# Altium schematic symbol library MCU_Texas_MSP430.SchLib: 361 symbols (part 5 of 9)
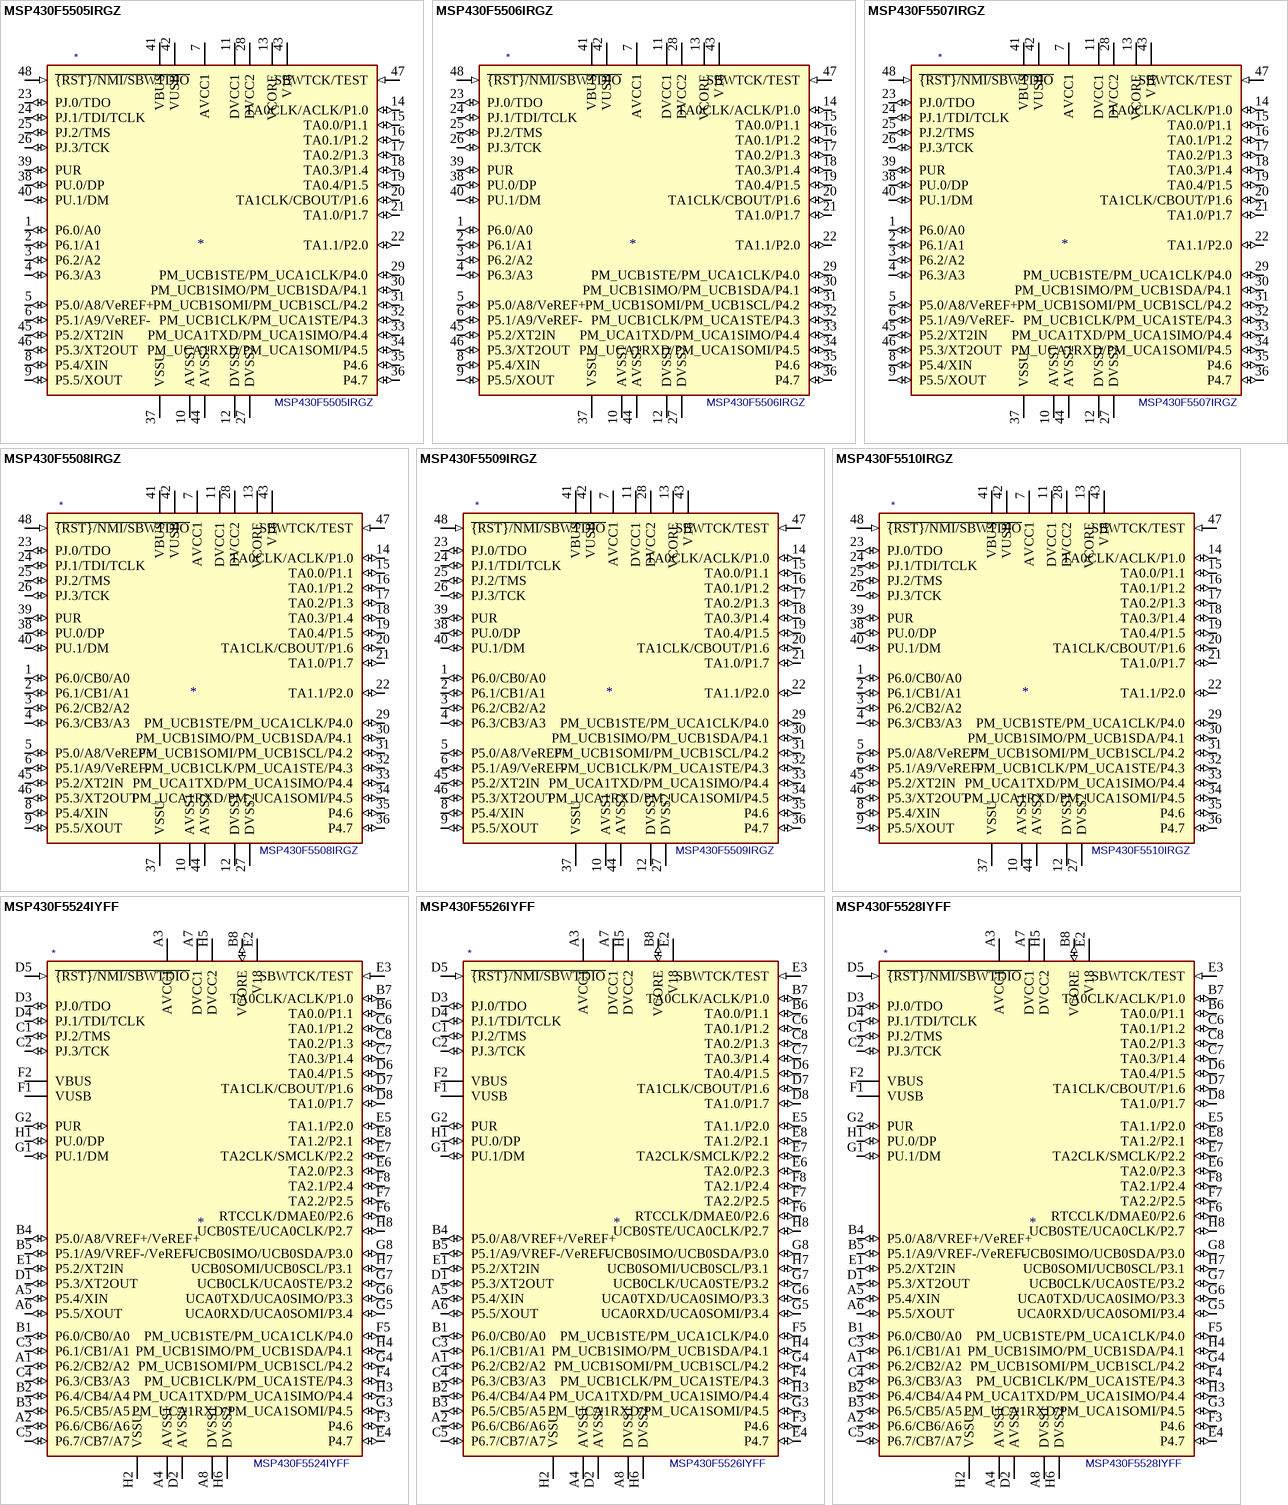
[diagram p38: symbols MSP430F5505IRGZ to MSP430F5528IYFF]

## MSP430F5508IRGZ
designator *  value MSP430F5508IRGZ
ki_keywords: TI MSP430 16-bit mixed signal microcontroller; ki_description: 16kB Flash, 4kB + 2kB RAM, QFN-48; ki_fp_filters: Texas*S?PVQFN*; Footprint: Package_DFN_QFN:Texas_S-PVQFN-N48_EP5.15x5.15mm; Supplier: http://www.ti.com/lit/ds/symlink/msp430f5508.pdf
footprint Texas_S-PVQFN-N48_EP5.15x5.15mm
pins: 1 P6.0/CB0/A0 (io), 2 P6.1/CB1/A1 (io), 3 P6.2/CB2/A2 (io), 4 P6.3/CB3/A3 (io), 5 P5.0/A8/VeREF+ (io), 6 P5.1/A9/VeREF- (io), 7 AVCC1 (power), 8 P5.4/XIN (io), 9 P5.5/XOUT (io), 10 AVSS1 (power), 11 DVCC1 (power), 12 DVSS1 (power), 13 VCORE, 14 TA0CLK/ACLK/P1.0 (io), 15 TA0.0/P1.1 (io), 16 TA0.1/P1.2 (io), 17 TA0.2/P1.3 (io), 18 TA0.3/P1.4 (io), 19 TA0.4/P1.5 (io), 20 TA1CLK/CBOUT/P1.6 (io), 21 TA1.0/P1.7 (io), 22 TA1.1/P2.0 (io), 23 PJ.0/TDO (io), 24 PJ.1/TDI/TCLK (io), 25 PJ.2/TMS (io), 26 PJ.3/TCK (io), 27 DVSS2 (power), 28 DVCC2 (power), 29 PM_UCB1STE/PM_UCA1CLK/P4.0 (io), 30 PM_UCB1SIMO/PM_UCB1SDA/P4.1 (io), 31 PM_UCB1SOMI/PM_UCB1SCL/P4.2 (io), 32 PM_UCB1CLK/PM_UCA1STE/P4.3 (io), 33 PM_UCA1TXD/PM_UCA1SIMO/P4.4 (io), 34 PM_UCA1RXD/PM_UCA1SOMI/P4.5 (io), 35 P4.6 (io), 36 P4.7 (io), 37 VSSU (power), 38 PU.0/DP (io), 39 PUR (io), 40 PU.1/DM (io), 41 VBUS (power), 42 VUSB (power), 43 V18, 44 AVSS2 (power), 45 P5.2/XT2IN (io), 46 P5.3/XT2OUT (io), 47 SBWTCK/TEST (in), 48 ~{{RST}/NMI/SBWTDIO} (in)

## MSP430F5509IRGZ
designator *  value MSP430F5509IRGZ
ki_keywords: TI MSP430 16-bit mixed signal microcontroller; ki_description: 24kB Flash, 4kB + 2kB RAM, QFN-48; ki_fp_filters: Texas*S?PVQFN*; Footprint: Package_DFN_QFN:Texas_S-PVQFN-N48_EP5.15x5.15mm; Supplier: http://www.ti.com/lit/ds/symlink/msp430f5509.pdf
footprint Texas_S-PVQFN-N48_EP5.15x5.15mm
pins: 1 P6.0/CB0/A0 (io), 2 P6.1/CB1/A1 (io), 3 P6.2/CB2/A2 (io), 4 P6.3/CB3/A3 (io), 5 P5.0/A8/VeREF+ (io), 6 P5.1/A9/VeREF- (io), 7 AVCC1 (power), 8 P5.4/XIN (io), 9 P5.5/XOUT (io), 10 AVSS1 (power), 11 DVCC1 (power), 12 DVSS1 (power), 13 VCORE, 14 TA0CLK/ACLK/P1.0 (io), 15 TA0.0/P1.1 (io), 16 TA0.1/P1.2 (io), 17 TA0.2/P1.3 (io), 18 TA0.3/P1.4 (io), 19 TA0.4/P1.5 (io), 20 TA1CLK/CBOUT/P1.6 (io), 21 TA1.0/P1.7 (io), 22 TA1.1/P2.0 (io), 23 PJ.0/TDO (io), 24 PJ.1/TDI/TCLK (io), 25 PJ.2/TMS (io), 26 PJ.3/TCK (io), 27 DVSS2 (power), 28 DVCC2 (power), 29 PM_UCB1STE/PM_UCA1CLK/P4.0 (io), 30 PM_UCB1SIMO/PM_UCB1SDA/P4.1 (io), 31 PM_UCB1SOMI/PM_UCB1SCL/P4.2 (io), 32 PM_UCB1CLK/PM_UCA1STE/P4.3 (io), 33 PM_UCA1TXD/PM_UCA1SIMO/P4.4 (io), 34 PM_UCA1RXD/PM_UCA1SOMI/P4.5 (io), 35 P4.6 (io), 36 P4.7 (io), 37 VSSU (power), 38 PU.0/DP (io), 39 PUR (io), 40 PU.1/DM (io), 41 VBUS (power), 42 VUSB (power), 43 V18, 44 AVSS2 (power), 45 P5.2/XT2IN (io), 46 P5.3/XT2OUT (io), 47 SBWTCK/TEST (in), 48 ~{{RST}/NMI/SBWTDIO} (in)

## MSP430F5510IRGZ
designator *  value MSP430F5510IRGZ
ki_keywords: TI MSP430 16-bit mixed signal microcontroller; ki_description: 32kB Flash, 4kB + 2kB RAM, QFN-48; ki_fp_filters: Texas*S?PVQFN*; Footprint: Package_DFN_QFN:Texas_S-PVQFN-N48_EP5.15x5.15mm; Supplier: http://www.ti.com/lit/ds/symlink/msp430f5510.pdf
footprint Texas_S-PVQFN-N48_EP5.15x5.15mm
pins: 1 P6.0/CB0/A0 (io), 2 P6.1/CB1/A1 (io), 3 P6.2/CB2/A2 (io), 4 P6.3/CB3/A3 (io), 5 P5.0/A8/VeREF+ (io), 6 P5.1/A9/VeREF- (io), 7 AVCC1 (power), 8 P5.4/XIN (io), 9 P5.5/XOUT (io), 10 AVSS1 (power), 11 DVCC1 (power), 12 DVSS1 (power), 13 VCORE, 14 TA0CLK/ACLK/P1.0 (io), 15 TA0.0/P1.1 (io), 16 TA0.1/P1.2 (io), 17 TA0.2/P1.3 (io), 18 TA0.3/P1.4 (io), 19 TA0.4/P1.5 (io), 20 TA1CLK/CBOUT/P1.6 (io), 21 TA1.0/P1.7 (io), 22 TA1.1/P2.0 (io), 23 PJ.0/TDO (io), 24 PJ.1/TDI/TCLK (io), 25 PJ.2/TMS (io), 26 PJ.3/TCK (io), 27 DVSS2 (power), 28 DVCC2 (power), 29 PM_UCB1STE/PM_UCA1CLK/P4.0 (io), 30 PM_UCB1SIMO/PM_UCB1SDA/P4.1 (io), 31 PM_UCB1SOMI/PM_UCB1SCL/P4.2 (io), 32 PM_UCB1CLK/PM_UCA1STE/P4.3 (io), 33 PM_UCA1TXD/PM_UCA1SIMO/P4.4 (io), 34 PM_UCA1RXD/PM_UCA1SOMI/P4.5 (io), 35 P4.6 (io), 36 P4.7 (io), 37 VSSU (power), 38 PU.0/DP (io), 39 PUR (io), 40 PU.1/DM (io), 41 VBUS (power), 42 VUSB (power), 43 V18, 44 AVSS2 (power), 45 P5.2/XT2IN (io), 46 P5.3/XT2OUT (io), 47 SBWTCK/TEST (in), 48 ~{{RST}/NMI/SBWTDIO} (in)

## MSP430F5524IYFF
designator *  value MSP430F5524IYFF
ki_keywords: TI MSP430 16-bit mixed signal microcontroller; ki_description: 64kB Flash, 4kB + 2kB RAM, BGA-64; ki_fp_filters: Texas*DSBGA*3.415x3.535mm*Layout8x8*P0.4mm*; Footprint: Package_BGA:Texas_DSBGA-64_3.415x3.535mm_Layout8x8_P0.4mm; Supplier: http://www.ti.com/lit/ds/symlink/msp430f5524.pdf
footprint Texas_DSBGA-64_3.415x3.535mm_Layout8x8_P0.4mm
pins: A1 P6.2/CB2/A2 (io), A2 P6.6/CB6/A6 (io), A3 AVCC1 (power), A4 AVSS1 (power), A5 P5.4/XIN (io), A6 P5.5/XOUT (io), A7 DVCC1 (power), A8 DVSS1 (power), B1 P6.0/CB0/A0 (io), B2 P6.4/CB4/A4 (io), B3 P6.5/CB5/A5 (io), B4 P5.0/A8/VREF+/VeREF+ (io), B5 P5.1/A9/VREF-/VeREF- (io), B6 TA0.0/P1.1 (io), B7 TA0CLK/ACLK/P1.0 (io), B8 VCORE (io), C1 PJ.2/TMS (io), C2 PJ.3/TCK (io), C3 P6.1/CB1/A1 (io), C4 P6.3/CB3/A3 (io), C5 P6.7/CB7/A7 (io), C6 TA0.1/P1.2 (io), C7 TA0.3/P1.4 (io), C8 TA0.2/P1.3 (io), D1 P5.3/XT2OUT (io), D2 AVSS2 (power), D3 PJ.0/TDO (io), D4 PJ.1/TDI/TCLK (io), D5 ~{{RST}/NMI/SBWTDIO} (in), D6 TA0.4/P1.5 (io), D7 TA1CLK/CBOUT/P1.6 (io), D8 TA1.0/P1.7 (io), E1 P5.2/XT2IN (io), E2 V18, E3 SBWTCK/TEST (in), E4 P4.7 (io), E5 TA1.1/P2.0 (io), E6 TA2.0/P2.3 (io), E7 TA2CLK/SMCLK/P2.2 (io), E8 TA1.2/P2.1 (io), F1 VUSB (power), F2 VBUS (power), F3 P4.6 (io), F4 PM_UCB1CLK/PM_UCA1STE/P4.3 (io), F5 PM_UCB1STE/PM_UCA1CLK/P4.0 (io), F6 RTCCLK/DMAE0/P2.6 (io), F7 TA2.2/P2.5 (io), F8 TA2.1/P2.4 (io), G1 PU.1/DM (io), G2 PUR (io), G3 PM_UCA1RXD/PM_UCA1SOMI/P4.5 (io), G4 PM_UCB1SOMI/PM_UCB1SCL/P4.2 (io), G5 UCA0RXD/UCA0SOMI/P3.4 (io), G6 UCA0TXD/UCA0SIMO/P3.3 (io), G7 UCB0CLK/UCA0STE/P3.2 (io), G8 UCB0SIMO/UCB0SDA/P3.0 (io), H1 PU.0/DP (io), H2 VSSU (power), H3 PM_UCA1TXD/PM_UCA1SIMO/P4.4 (io), H4 PM_UCB1SIMO/PM_UCB1SDA/P4.1 (io), H5 DVCC2 (power), H6 DVSS2 (power), H7 UCB0SOMI/UCB0SCL/P3.1 (io), H8 UCB0STE/UCA0CLK/P2.7 (io)

## MSP430F5526IYFF
designator *  value MSP430F5526IYFF
ki_keywords: TI MSP430 16-bit mixed signal microcontroller; ki_description: 96kB Flash, 6kB + 2kB RAM, BGA-64; ki_fp_filters: Texas*DSBGA*3.415x3.535mm*Layout8x8*P0.4mm*; Footprint: Package_BGA:Texas_DSBGA-64_3.415x3.535mm_Layout8x8_P0.4mm; Supplier: http://www.ti.com/lit/ds/symlink/msp430f5526.pdf
footprint Texas_DSBGA-64_3.415x3.535mm_Layout8x8_P0.4mm
pins: A1 P6.2/CB2/A2 (io), A2 P6.6/CB6/A6 (io), A3 AVCC1 (power), A4 AVSS1 (power), A5 P5.4/XIN (io), A6 P5.5/XOUT (io), A7 DVCC1 (power), A8 DVSS1 (power), B1 P6.0/CB0/A0 (io), B2 P6.4/CB4/A4 (io), B3 P6.5/CB5/A5 (io), B4 P5.0/A8/VREF+/VeREF+ (io), B5 P5.1/A9/VREF-/VeREF- (io), B6 TA0.0/P1.1 (io), B7 TA0CLK/ACLK/P1.0 (io), B8 VCORE (io), C1 PJ.2/TMS (io), C2 PJ.3/TCK (io), C3 P6.1/CB1/A1 (io), C4 P6.3/CB3/A3 (io), C5 P6.7/CB7/A7 (io), C6 TA0.1/P1.2 (io), C7 TA0.3/P1.4 (io), C8 TA0.2/P1.3 (io), D1 P5.3/XT2OUT (io), D2 AVSS2 (power), D3 PJ.0/TDO (io), D4 PJ.1/TDI/TCLK (io), D5 ~{{RST}/NMI/SBWTDIO} (in), D6 TA0.4/P1.5 (io), D7 TA1CLK/CBOUT/P1.6 (io), D8 TA1.0/P1.7 (io), E1 P5.2/XT2IN (io), E2 V18, E3 SBWTCK/TEST (in), E4 P4.7 (io), E5 TA1.1/P2.0 (io), E6 TA2.0/P2.3 (io), E7 TA2CLK/SMCLK/P2.2 (io), E8 TA1.2/P2.1 (io), F1 VUSB (power), F2 VBUS (power), F3 P4.6 (io), F4 PM_UCB1CLK/PM_UCA1STE/P4.3 (io), F5 PM_UCB1STE/PM_UCA1CLK/P4.0 (io), F6 RTCCLK/DMAE0/P2.6 (io), F7 TA2.2/P2.5 (io), F8 TA2.1/P2.4 (io), G1 PU.1/DM (io), G2 PUR (io), G3 PM_UCA1RXD/PM_UCA1SOMI/P4.5 (io), G4 PM_UCB1SOMI/PM_UCB1SCL/P4.2 (io), G5 UCA0RXD/UCA0SOMI/P3.4 (io), G6 UCA0TXD/UCA0SIMO/P3.3 (io), G7 UCB0CLK/UCA0STE/P3.2 (io), G8 UCB0SIMO/UCB0SDA/P3.0 (io), H1 PU.0/DP (io), H2 VSSU (power), H3 PM_UCA1TXD/PM_UCA1SIMO/P4.4 (io), H4 PM_UCB1SIMO/PM_UCB1SDA/P4.1 (io), H5 DVCC2 (power), H6 DVSS2 (power), H7 UCB0SOMI/UCB0SCL/P3.1 (io), H8 UCB0STE/UCA0CLK/P2.7 (io)

## MSP430F5528IYFF
designator *  value MSP430F5528IYFF
ki_keywords: TI MSP430 16-bit mixed signal microcontroller; ki_description: 128kB Flash, 8kB + 2kB RAM, BGA-64; ki_fp_filters: Texas*DSBGA*3.415x3.535mm*Layout8x8*P0.4mm*; Footprint: Package_BGA:Texas_DSBGA-64_3.415x3.535mm_Layout8x8_P0.4mm; Supplier: http://www.ti.com/lit/ds/symlink/msp430f5528.pdf
footprint Texas_DSBGA-64_3.415x3.535mm_Layout8x8_P0.4mm
pins: A1 P6.2/CB2/A2 (io), A2 P6.6/CB6/A6 (io), A3 AVCC1 (power), A4 AVSS1 (power), A5 P5.4/XIN (io), A6 P5.5/XOUT (io), A7 DVCC1 (power), A8 DVSS1 (power), B1 P6.0/CB0/A0 (io), B2 P6.4/CB4/A4 (io), B3 P6.5/CB5/A5 (io), B4 P5.0/A8/VREF+/VeREF+ (io), B5 P5.1/A9/VREF-/VeREF- (io), B6 TA0.0/P1.1 (io), B7 TA0CLK/ACLK/P1.0 (io), B8 VCORE (io), C1 PJ.2/TMS (io), C2 PJ.3/TCK (io), C3 P6.1/CB1/A1 (io), C4 P6.3/CB3/A3 (io), C5 P6.7/CB7/A7 (io), C6 TA0.1/P1.2 (io), C7 TA0.3/P1.4 (io), C8 TA0.2/P1.3 (io), D1 P5.3/XT2OUT (io), D2 AVSS2 (power), D3 PJ.0/TDO (io), D4 PJ.1/TDI/TCLK (io), D5 ~{{RST}/NMI/SBWTDIO} (in), D6 TA0.4/P1.5 (io), D7 TA1CLK/CBOUT/P1.6 (io), D8 TA1.0/P1.7 (io), E1 P5.2/XT2IN (io), E2 V18, E3 SBWTCK/TEST (in), E4 P4.7 (io), E5 TA1.1/P2.0 (io), E6 TA2.0/P2.3 (io), E7 TA2CLK/SMCLK/P2.2 (io), E8 TA1.2/P2.1 (io), F1 VUSB (power), F2 VBUS (power), F3 P4.6 (io), F4 PM_UCB1CLK/PM_UCA1STE/P4.3 (io), F5 PM_UCB1STE/PM_UCA1CLK/P4.0 (io), F6 RTCCLK/DMAE0/P2.6 (io), F7 TA2.2/P2.5 (io), F8 TA2.1/P2.4 (io), G1 PU.1/DM (io), G2 PUR (io), G3 PM_UCA1RXD/PM_UCA1SOMI/P4.5 (io), G4 PM_UCB1SOMI/PM_UCB1SCL/P4.2 (io), G5 UCA0RXD/UCA0SOMI/P3.4 (io), G6 UCA0TXD/UCA0SIMO/P3.3 (io), G7 UCB0CLK/UCA0STE/P3.2 (io), G8 UCB0SIMO/UCB0SDA/P3.0 (io), H1 PU.0/DP (io), H2 VSSU (power), H3 PM_UCA1TXD/PM_UCA1SIMO/P4.4 (io), H4 PM_UCB1SIMO/PM_UCB1SDA/P4.1 (io), H5 DVCC2 (power), H6 DVSS2 (power), H7 UCB0SOMI/UCB0SCL/P3.1 (io), H8 UCB0STE/UCA0CLK/P2.7 (io)

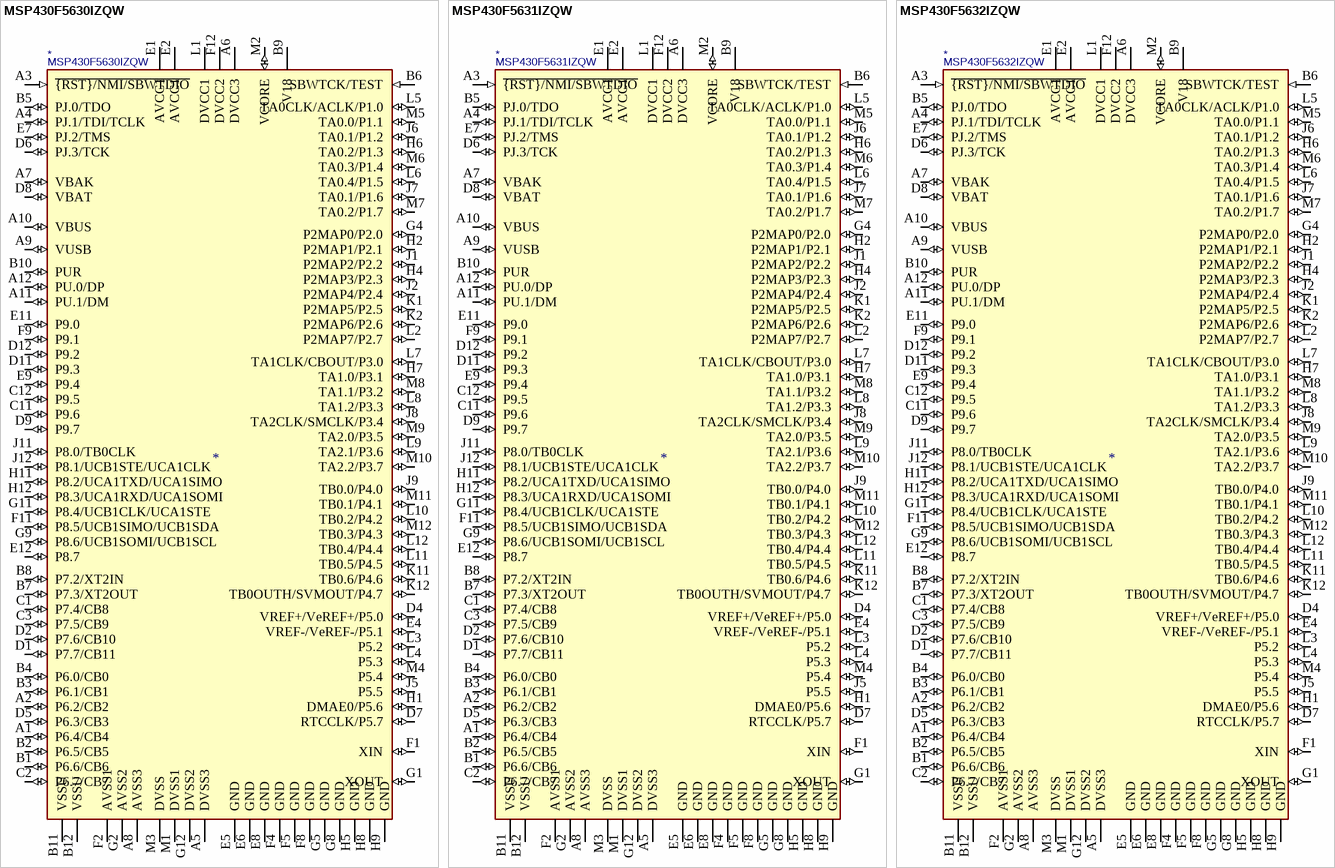
[diagram p17: symbols MSP430F5630IZQW to MSP430F5632IZQW]

## MSP430F5630IZQW
designator *  value MSP430F5630IZQW
ki_keywords: TI MSP430 16-bit mixed signal microcontroller; ki_description: 128kB Flash, 16kB + 2kB RAM, BGA-113; ki_fp_filters: Texas*MicroStar*Junior*BGA*7.0x7.0mm*Layout12x12*P0.5mm*; Footprint: Package_BGA:Texas_MicroStar_Junior_BGA-113_7.0x7.0mm_Layout12x12_P0.5mm; Supplier: http://www.ti.com/lit/ds/symlink/msp430f5630.pdf
footprint Texas_MicroStar_Junior_BGA-113_7.0x7.0mm_Layout12x12_P0.5mm
pins: A1 P6.4/CB4 (io), A2 P6.2/CB2 (io), A3 ~{{RST}/NMI/SBWTDIO} (in), A4 PJ.1/TDI/TCLK (io), A5 DVSS3 (power), A6 DVCC3 (power), A7 VBAK (io), A8 AVSS3 (power), A9 VUSB (io), A10 VBUS (io), A11 PU.1/DM (io), A12 PU.0/DP (io), B1 P6.6/CB6 (io), B2 P6.5/CB5 (io), B3 P6.1/CB1 (io), B4 P6.0/CB0 (io), B5 PJ.0/TDO (io), B6 SBWTCK/TEST (in), B7 P7.3/XT2OUT (io), B8 P7.2/XT2IN (io), B9 V18, B10 PUR (io), B11 VSSU (power), B12 VSSU (power), C1 P7.4/CB8 (io), C2 P6.7/CB7 (io), C3 P7.5/CB9 (io), C11 P9.6 (io), C12 P9.5 (io), D1 P7.7/CB11 (io), D2 P7.6/CB10 (io), D4 VREF+/VeREF+/P5.0 (io), D5 P6.3/CB3 (io), D6 PJ.3/TCK (io), D7 RTCCLK/P5.7 (io), D8 VBAT (io), D9 P9.7 (io), D11 P9.3 (io), D12 P9.2 (io), E1 AVCC1 (power), E2 AVCC1 (power), E4 VREF-/VeREF-/P5.1 (io), E5 GND (power), E6 GND (power), E7 PJ.2/TMS (io), E8 GND (power), E9 P9.4 (io), E11 P9.0 (io), E12 P8.7 (io), F1 XIN (io), F2 AVSS1 (power), F4 GND (power), F5 GND (power), F8 GND (power), F9 P9.1 (io), F11 P8.5/UCB1SIMO/UCB1SDA (io), F12 DVCC2 (power), G1 XOUT (io), G2 AVSS2 (power), G4 P2MAP0/P2.0 (io), G5 GND (power), G8 GND (power), G9 P8.6/UCB1SOMI/UCB1SCL (io), G11 P8.4/UCB1CLK/UCA1STE (io), G12 DVSS2 (power), H1 DMAE0/P5.6 (io), H2 P2MAP1/P2.1 (io), H4 P2MAP3/P2.3 (io), H5 GND (power), H6 TA0.2/P1.3 (io), H7 TA1.0/P3.1 (io), H8 GND (power), H9 GND (power), H11 P8.2/UCA1TXD/UCA1SIMO (io), H12 P8.3/UCA1RXD/UCA1SOMI (io), J1 P2MAP2/P2.2 (io), J2 P2MAP4/P2.4 (io), J5 P5.5 (io), J6 TA0.1/P1.2 (io), J7 TA0.1/P1.6 (io), J8 TA2CLK/SMCLK/P3.4 (io), J9 TB0.0/P4.0 (io), J11 P8.0/TB0CLK (io), J12 P8.1/UCB1STE/UCA1CLK (io), K1 P2MAP5/P2.5 (io), K2 P2MAP6/P2.6 (io), K11 TB0.6/P4.6 (io), K12 TB0OUTH/SVMOUT/P4.7 (io), L1 DVCC1 (power), L2 P2MAP7/P2.7 (io), L3 P5.2 (io), L4 P5.3 (io), L5 TA0CLK/ACLK/P1.0 (io), L6 TA0.4/P1.5 (io), L7 TA1CLK/CBOUT/P3.0 (io), L8 TA1.2/P3.3 (io), L9 TA2.1/P3.6 (io), L10 TB0.2/P4.2 (io), L11 TB0.5/P4.5 (io), L12 TB0.4/P4.4 (io), M1 DVSS1 (power), M2 VCORE (io), M3 DVSS (power), M4 P5.4 (io), M5 TA0.0/P1.1 (io), M6 TA0.3/P1.4 (io), M7 TA0.2/P1.7 (io), M8 TA1.1/P3.2 (io), M9 TA2.0/P3.5 (io), M10 TA2.2/P3.7 (io), M11 TB0.1/P4.1 (io), M12 TB0.3/P4.3 (io)

## MSP430F5631IZQW
designator *  value MSP430F5631IZQW
ki_keywords: TI MSP430 16-bit mixed signal microcontroller; ki_description: 192kB Flash, 16kB + 2kB RAM, BGA-113; ki_fp_filters: Texas*MicroStar*Junior*BGA*7.0x7.0mm*Layout12x12*P0.5mm*; Footprint: Package_BGA:Texas_MicroStar_Junior_BGA-113_7.0x7.0mm_Layout12x12_P0.5mm; Supplier: http://www.ti.com/lit/ds/symlink/msp430f5631.pdf
footprint Texas_MicroStar_Junior_BGA-113_7.0x7.0mm_Layout12x12_P0.5mm
pins: A1 P6.4/CB4 (io), A2 P6.2/CB2 (io), A3 ~{{RST}/NMI/SBWTDIO} (in), A4 PJ.1/TDI/TCLK (io), A5 DVSS3 (power), A6 DVCC3 (power), A7 VBAK (io), A8 AVSS3 (power), A9 VUSB (io), A10 VBUS (io), A11 PU.1/DM (io), A12 PU.0/DP (io), B1 P6.6/CB6 (io), B2 P6.5/CB5 (io), B3 P6.1/CB1 (io), B4 P6.0/CB0 (io), B5 PJ.0/TDO (io), B6 SBWTCK/TEST (in), B7 P7.3/XT2OUT (io), B8 P7.2/XT2IN (io), B9 V18, B10 PUR (io), B11 VSSU (power), B12 VSSU (power), C1 P7.4/CB8 (io), C2 P6.7/CB7 (io), C3 P7.5/CB9 (io), C11 P9.6 (io), C12 P9.5 (io), D1 P7.7/CB11 (io), D2 P7.6/CB10 (io), D4 VREF+/VeREF+/P5.0 (io), D5 P6.3/CB3 (io), D6 PJ.3/TCK (io), D7 RTCCLK/P5.7 (io), D8 VBAT (io), D9 P9.7 (io), D11 P9.3 (io), D12 P9.2 (io), E1 AVCC1 (power), E2 AVCC1 (power), E4 VREF-/VeREF-/P5.1 (io), E5 GND (power), E6 GND (power), E7 PJ.2/TMS (io), E8 GND (power), E9 P9.4 (io), E11 P9.0 (io), E12 P8.7 (io), F1 XIN (io), F2 AVSS1 (power), F4 GND (power), F5 GND (power), F8 GND (power), F9 P9.1 (io), F11 P8.5/UCB1SIMO/UCB1SDA (io), F12 DVCC2 (power), G1 XOUT (io), G2 AVSS2 (power), G4 P2MAP0/P2.0 (io), G5 GND (power), G8 GND (power), G9 P8.6/UCB1SOMI/UCB1SCL (io), G11 P8.4/UCB1CLK/UCA1STE (io), G12 DVSS2 (power), H1 DMAE0/P5.6 (io), H2 P2MAP1/P2.1 (io), H4 P2MAP3/P2.3 (io), H5 GND (power), H6 TA0.2/P1.3 (io), H7 TA1.0/P3.1 (io), H8 GND (power), H9 GND (power), H11 P8.2/UCA1TXD/UCA1SIMO (io), H12 P8.3/UCA1RXD/UCA1SOMI (io), J1 P2MAP2/P2.2 (io), J2 P2MAP4/P2.4 (io), J5 P5.5 (io), J6 TA0.1/P1.2 (io), J7 TA0.1/P1.6 (io), J8 TA2CLK/SMCLK/P3.4 (io), J9 TB0.0/P4.0 (io), J11 P8.0/TB0CLK (io), J12 P8.1/UCB1STE/UCA1CLK (io), K1 P2MAP5/P2.5 (io), K2 P2MAP6/P2.6 (io), K11 TB0.6/P4.6 (io), K12 TB0OUTH/SVMOUT/P4.7 (io), L1 DVCC1 (power), L2 P2MAP7/P2.7 (io), L3 P5.2 (io), L4 P5.3 (io), L5 TA0CLK/ACLK/P1.0 (io), L6 TA0.4/P1.5 (io), L7 TA1CLK/CBOUT/P3.0 (io), L8 TA1.2/P3.3 (io), L9 TA2.1/P3.6 (io), L10 TB0.2/P4.2 (io), L11 TB0.5/P4.5 (io), L12 TB0.4/P4.4 (io), M1 DVSS1 (power), M2 VCORE (io), M3 DVSS (power), M4 P5.4 (io), M5 TA0.0/P1.1 (io), M6 TA0.3/P1.4 (io), M7 TA0.2/P1.7 (io), M8 TA1.1/P3.2 (io), M9 TA2.0/P3.5 (io), M10 TA2.2/P3.7 (io), M11 TB0.1/P4.1 (io), M12 TB0.3/P4.3 (io)

## MSP430F5632IZQW
designator *  value MSP430F5632IZQW
ki_keywords: TI MSP430 16-bit mixed signal microcontroller; ki_description: 256kB Flash, 16kB + 2kB RAM, BGA-113; ki_fp_filters: Texas*MicroStar*Junior*BGA*7.0x7.0mm*Layout12x12*P0.5mm*; Footprint: Package_BGA:Texas_MicroStar_Junior_BGA-113_7.0x7.0mm_Layout12x12_P0.5mm; Supplier: http://www.ti.com/lit/ds/symlink/msp430f5632.pdf
footprint Texas_MicroStar_Junior_BGA-113_7.0x7.0mm_Layout12x12_P0.5mm
pins: A1 P6.4/CB4 (io), A2 P6.2/CB2 (io), A3 ~{{RST}/NMI/SBWTDIO} (in), A4 PJ.1/TDI/TCLK (io), A5 DVSS3 (power), A6 DVCC3 (power), A7 VBAK (io), A8 AVSS3 (power), A9 VUSB (io), A10 VBUS (io), A11 PU.1/DM (io), A12 PU.0/DP (io), B1 P6.6/CB6 (io), B2 P6.5/CB5 (io), B3 P6.1/CB1 (io), B4 P6.0/CB0 (io), B5 PJ.0/TDO (io), B6 SBWTCK/TEST (in), B7 P7.3/XT2OUT (io), B8 P7.2/XT2IN (io), B9 V18, B10 PUR (io), B11 VSSU (power), B12 VSSU (power), C1 P7.4/CB8 (io), C2 P6.7/CB7 (io), C3 P7.5/CB9 (io), C11 P9.6 (io), C12 P9.5 (io), D1 P7.7/CB11 (io), D2 P7.6/CB10 (io), D4 VREF+/VeREF+/P5.0 (io), D5 P6.3/CB3 (io), D6 PJ.3/TCK (io), D7 RTCCLK/P5.7 (io), D8 VBAT (io), D9 P9.7 (io), D11 P9.3 (io), D12 P9.2 (io), E1 AVCC1 (power), E2 AVCC1 (power), E4 VREF-/VeREF-/P5.1 (io), E5 GND (power), E6 GND (power), E7 PJ.2/TMS (io), E8 GND (power), E9 P9.4 (io), E11 P9.0 (io), E12 P8.7 (io), F1 XIN (io), F2 AVSS1 (power), F4 GND (power), F5 GND (power), F8 GND (power), F9 P9.1 (io), F11 P8.5/UCB1SIMO/UCB1SDA (io), F12 DVCC2 (power), G1 XOUT (io), G2 AVSS2 (power), G4 P2MAP0/P2.0 (io), G5 GND (power), G8 GND (power), G9 P8.6/UCB1SOMI/UCB1SCL (io), G11 P8.4/UCB1CLK/UCA1STE (io), G12 DVSS2 (power), H1 DMAE0/P5.6 (io), H2 P2MAP1/P2.1 (io), H4 P2MAP3/P2.3 (io), H5 GND (power), H6 TA0.2/P1.3 (io), H7 TA1.0/P3.1 (io), H8 GND (power), H9 GND (power), H11 P8.2/UCA1TXD/UCA1SIMO (io), H12 P8.3/UCA1RXD/UCA1SOMI (io), J1 P2MAP2/P2.2 (io), J2 P2MAP4/P2.4 (io), J5 P5.5 (io), J6 TA0.1/P1.2 (io), J7 TA0.1/P1.6 (io), J8 TA2CLK/SMCLK/P3.4 (io), J9 TB0.0/P4.0 (io), J11 P8.0/TB0CLK (io), J12 P8.1/UCB1STE/UCA1CLK (io), K1 P2MAP5/P2.5 (io), K2 P2MAP6/P2.6 (io), K11 TB0.6/P4.6 (io), K12 TB0OUTH/SVMOUT/P4.7 (io), L1 DVCC1 (power), L2 P2MAP7/P2.7 (io), L3 P5.2 (io), L4 P5.3 (io), L5 TA0CLK/ACLK/P1.0 (io), L6 TA0.4/P1.5 (io), L7 TA1CLK/CBOUT/P3.0 (io), L8 TA1.2/P3.3 (io), L9 TA2.1/P3.6 (io), L10 TB0.2/P4.2 (io), L11 TB0.5/P4.5 (io), L12 TB0.4/P4.4 (io), M1 DVSS1 (power), M2 VCORE (io), M3 DVSS (power), M4 P5.4 (io), M5 TA0.0/P1.1 (io), M6 TA0.3/P1.4 (io), M7 TA0.2/P1.7 (io), M8 TA1.1/P3.2 (io), M9 TA2.0/P3.5 (io), M10 TA2.2/P3.7 (io), M11 TB0.1/P4.1 (io), M12 TB0.3/P4.3 (io)

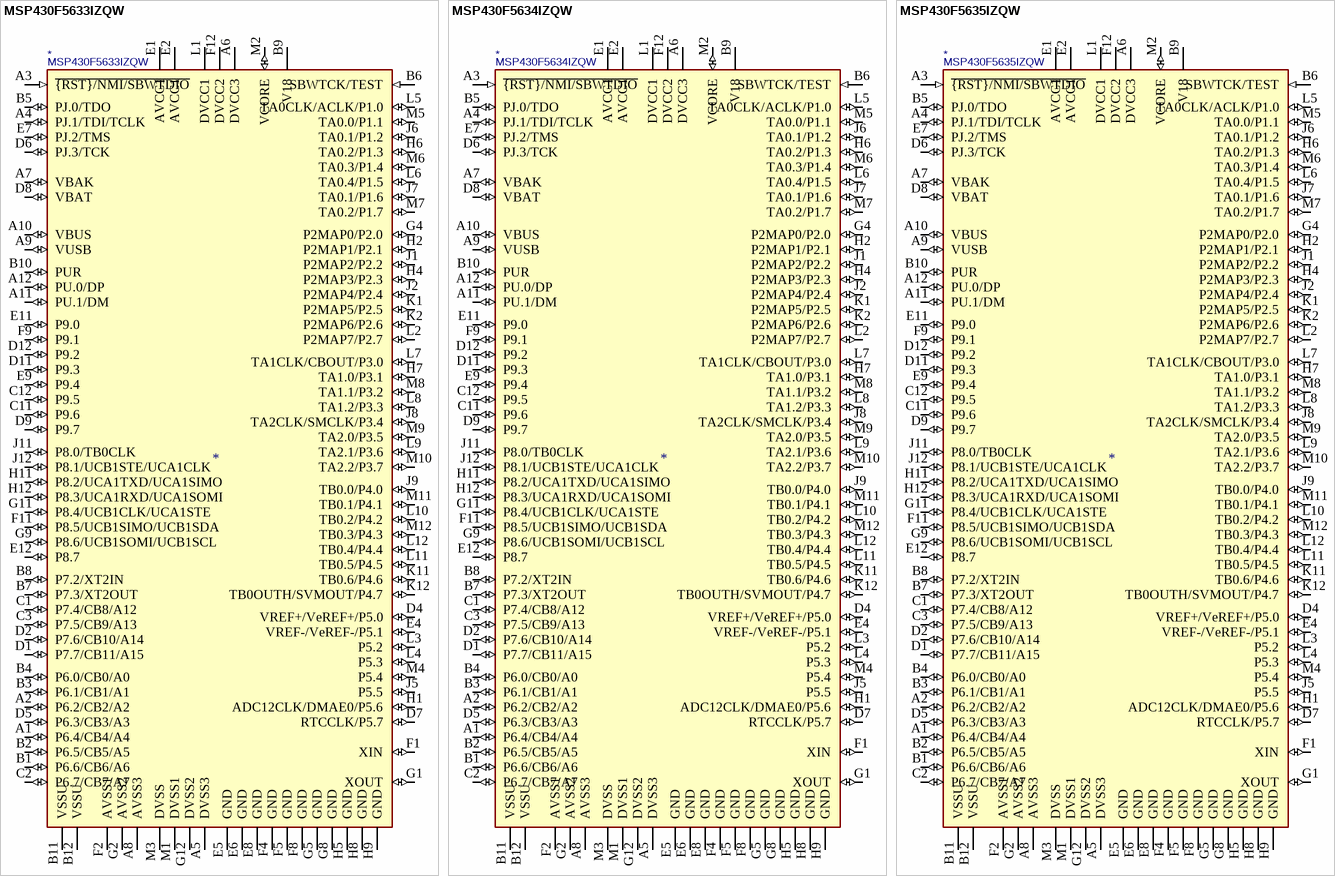
[diagram p18: symbols MSP430F5633IZQW to MSP430F5635IZQW]

## MSP430F5633IZQW
designator *  value MSP430F5633IZQW
ki_keywords: TI MSP430 16-bit mixed signal microcontroller; ki_description: 128kB Flash, 16kB + 2kB RAM, BGA-113; ki_fp_filters: Texas*MicroStar*Junior*BGA*7.0x7.0mm*Layout12x12*P0.5mm*; Footprint: Package_BGA:Texas_MicroStar_Junior_BGA-113_7.0x7.0mm_Layout12x12_P0.5mm; Supplier: http://www.ti.com/lit/ds/symlink/msp430f5633.pdf
footprint Texas_MicroStar_Junior_BGA-113_7.0x7.0mm_Layout12x12_P0.5mm
pins: A1 P6.4/CB4/A4 (io), A2 P6.2/CB2/A2 (io), A3 ~{{RST}/NMI/SBWTDIO} (in), A4 PJ.1/TDI/TCLK (io), A5 DVSS3 (power), A6 DVCC3 (power), A7 VBAK (io), A8 AVSS3 (power), A9 VUSB (io), A10 VBUS (io), A11 PU.1/DM (io), A12 PU.0/DP (io), B1 P6.6/CB6/A6 (io), B2 P6.5/CB5/A5 (io), B3 P6.1/CB1/A1 (io), B4 P6.0/CB0/A0 (io), B5 PJ.0/TDO (io), B6 SBWTCK/TEST (in), B7 P7.3/XT2OUT (io), B8 P7.2/XT2IN (io), B9 V18, B10 PUR (io), B11 VSSU (power), B12 VSSU (power), C1 P7.4/CB8/A12 (io), C2 P6.7/CB7/A7 (io), C3 P7.5/CB9/A13 (io), C11 P9.6 (io), C12 P9.5 (io), D1 P7.7/CB11/A15 (io), D2 P7.6/CB10/A14 (io), D4 VREF+/VeREF+/P5.0 (io), D5 P6.3/CB3/A3 (io), D6 PJ.3/TCK (io), D7 RTCCLK/P5.7 (io), D8 VBAT (io), D9 P9.7 (io), D11 P9.3 (io), D12 P9.2 (io), E1 AVCC1 (power), E2 AVCC1 (power), E4 VREF-/VeREF-/P5.1 (io), E5 GND (power), E6 GND (power), E7 PJ.2/TMS (io), E8 GND (power), E9 P9.4 (io), E11 P9.0 (io), E12 P8.7 (io), F1 XIN (io), F2 AVSS1 (power), F4 GND (power), F5 GND (power), F8 GND (power), F9 P9.1 (io), F11 P8.5/UCB1SIMO/UCB1SDA (io), F12 DVCC2 (power), G1 XOUT (io), G2 AVSS2 (power), G4 P2MAP0/P2.0 (io), G5 GND (power), G8 GND (power), G9 P8.6/UCB1SOMI/UCB1SCL (io), G11 P8.4/UCB1CLK/UCA1STE (io), G12 DVSS2 (power), H1 ADC12CLK/DMAE0/P5.6 (io), H2 P2MAP1/P2.1 (io), H4 P2MAP3/P2.3 (io), H5 GND (power), H6 TA0.2/P1.3 (io), H7 TA1.0/P3.1 (io), H8 GND (power), H9 GND (power), H11 P8.2/UCA1TXD/UCA1SIMO (io), H12 P8.3/UCA1RXD/UCA1SOMI (io), J1 P2MAP2/P2.2 (io), J2 P2MAP4/P2.4 (io), J5 P5.5 (io), J6 TA0.1/P1.2 (io), J7 TA0.1/P1.6 (io), J8 TA2CLK/SMCLK/P3.4 (io), J9 TB0.0/P4.0 (io), J11 P8.0/TB0CLK (io), J12 P8.1/UCB1STE/UCA1CLK (io), K1 P2MAP5/P2.5 (io), K2 P2MAP6/P2.6 (io), K11 TB0.6/P4.6 (io), K12 TB0OUTH/SVMOUT/P4.7 (io), L1 DVCC1 (power), L2 P2MAP7/P2.7 (io), L3 P5.2 (io), L4 P5.3 (io), L5 TA0CLK/ACLK/P1.0 (io), L6 TA0.4/P1.5 (io), L7 TA1CLK/CBOUT/P3.0 (io), L8 TA1.2/P3.3 (io), L9 TA2.1/P3.6 (io), L10 TB0.2/P4.2 (io), L11 TB0.5/P4.5 (io), L12 TB0.4/P4.4 (io), M1 DVSS1 (power), M2 VCORE (io), M3 DVSS (power), M4 P5.4 (io), M5 TA0.0/P1.1 (io), M6 TA0.3/P1.4 (io), M7 TA0.2/P1.7 (io), M8 TA1.1/P3.2 (io), M9 TA2.0/P3.5 (io), M10 TA2.2/P3.7 (io), M11 TB0.1/P4.1 (io), M12 TB0.3/P4.3 (io)

## MSP430F5634IZQW
designator *  value MSP430F5634IZQW
ki_keywords: TI MSP430 16-bit mixed signal microcontroller; ki_description: 192kB Flash, 16kB + 2kB RAM, BGA-113; ki_fp_filters: Texas*MicroStar*Junior*BGA*7.0x7.0mm*Layout12x12*P0.5mm*; Footprint: Package_BGA:Texas_MicroStar_Junior_BGA-113_7.0x7.0mm_Layout12x12_P0.5mm; Supplier: http://www.ti.com/lit/ds/symlink/msp430f5634.pdf
footprint Texas_MicroStar_Junior_BGA-113_7.0x7.0mm_Layout12x12_P0.5mm
pins: A1 P6.4/CB4/A4 (io), A2 P6.2/CB2/A2 (io), A3 ~{{RST}/NMI/SBWTDIO} (in), A4 PJ.1/TDI/TCLK (io), A5 DVSS3 (power), A6 DVCC3 (power), A7 VBAK (io), A8 AVSS3 (power), A9 VUSB (io), A10 VBUS (io), A11 PU.1/DM (io), A12 PU.0/DP (io), B1 P6.6/CB6/A6 (io), B2 P6.5/CB5/A5 (io), B3 P6.1/CB1/A1 (io), B4 P6.0/CB0/A0 (io), B5 PJ.0/TDO (io), B6 SBWTCK/TEST (in), B7 P7.3/XT2OUT (io), B8 P7.2/XT2IN (io), B9 V18, B10 PUR (io), B11 VSSU (power), B12 VSSU (power), C1 P7.4/CB8/A12 (io), C2 P6.7/CB7/A7 (io), C3 P7.5/CB9/A13 (io), C11 P9.6 (io), C12 P9.5 (io), D1 P7.7/CB11/A15 (io), D2 P7.6/CB10/A14 (io), D4 VREF+/VeREF+/P5.0 (io), D5 P6.3/CB3/A3 (io), D6 PJ.3/TCK (io), D7 RTCCLK/P5.7 (io), D8 VBAT (io), D9 P9.7 (io), D11 P9.3 (io), D12 P9.2 (io), E1 AVCC1 (power), E2 AVCC1 (power), E4 VREF-/VeREF-/P5.1 (io), E5 GND (power), E6 GND (power), E7 PJ.2/TMS (io), E8 GND (power), E9 P9.4 (io), E11 P9.0 (io), E12 P8.7 (io), F1 XIN (io), F2 AVSS1 (power), F4 GND (power), F5 GND (power), F8 GND (power), F9 P9.1 (io), F11 P8.5/UCB1SIMO/UCB1SDA (io), F12 DVCC2 (power), G1 XOUT (io), G2 AVSS2 (power), G4 P2MAP0/P2.0 (io), G5 GND (power), G8 GND (power), G9 P8.6/UCB1SOMI/UCB1SCL (io), G11 P8.4/UCB1CLK/UCA1STE (io), G12 DVSS2 (power), H1 ADC12CLK/DMAE0/P5.6 (io), H2 P2MAP1/P2.1 (io), H4 P2MAP3/P2.3 (io), H5 GND (power), H6 TA0.2/P1.3 (io), H7 TA1.0/P3.1 (io), H8 GND (power), H9 GND (power), H11 P8.2/UCA1TXD/UCA1SIMO (io), H12 P8.3/UCA1RXD/UCA1SOMI (io), J1 P2MAP2/P2.2 (io), J2 P2MAP4/P2.4 (io), J5 P5.5 (io), J6 TA0.1/P1.2 (io), J7 TA0.1/P1.6 (io), J8 TA2CLK/SMCLK/P3.4 (io), J9 TB0.0/P4.0 (io), J11 P8.0/TB0CLK (io), J12 P8.1/UCB1STE/UCA1CLK (io), K1 P2MAP5/P2.5 (io), K2 P2MAP6/P2.6 (io), K11 TB0.6/P4.6 (io), K12 TB0OUTH/SVMOUT/P4.7 (io), L1 DVCC1 (power), L2 P2MAP7/P2.7 (io), L3 P5.2 (io), L4 P5.3 (io), L5 TA0CLK/ACLK/P1.0 (io), L6 TA0.4/P1.5 (io), L7 TA1CLK/CBOUT/P3.0 (io), L8 TA1.2/P3.3 (io), L9 TA2.1/P3.6 (io), L10 TB0.2/P4.2 (io), L11 TB0.5/P4.5 (io), L12 TB0.4/P4.4 (io), M1 DVSS1 (power), M2 VCORE (io), M3 DVSS (power), M4 P5.4 (io), M5 TA0.0/P1.1 (io), M6 TA0.3/P1.4 (io), M7 TA0.2/P1.7 (io), M8 TA1.1/P3.2 (io), M9 TA2.0/P3.5 (io), M10 TA2.2/P3.7 (io), M11 TB0.1/P4.1 (io), M12 TB0.3/P4.3 (io)

## MSP430F5635IZQW
designator *  value MSP430F5635IZQW
ki_keywords: TI MSP430 16-bit mixed signal microcontroller; ki_description: 256kB Flash, 16kB + 2kB RAM, BGA-113; ki_fp_filters: Texas*MicroStar*Junior*BGA*7.0x7.0mm*Layout12x12*P0.5mm*; Footprint: Package_BGA:Texas_MicroStar_Junior_BGA-113_7.0x7.0mm_Layout12x12_P0.5mm; Supplier: http://www.ti.com/lit/ds/symlink/msp430f5635.pdf
footprint Texas_MicroStar_Junior_BGA-113_7.0x7.0mm_Layout12x12_P0.5mm
pins: A1 P6.4/CB4/A4 (io), A2 P6.2/CB2/A2 (io), A3 ~{{RST}/NMI/SBWTDIO} (in), A4 PJ.1/TDI/TCLK (io), A5 DVSS3 (power), A6 DVCC3 (power), A7 VBAK (io), A8 AVSS3 (power), A9 VUSB (io), A10 VBUS (io), A11 PU.1/DM (io), A12 PU.0/DP (io), B1 P6.6/CB6/A6 (io), B2 P6.5/CB5/A5 (io), B3 P6.1/CB1/A1 (io), B4 P6.0/CB0/A0 (io), B5 PJ.0/TDO (io), B6 SBWTCK/TEST (in), B7 P7.3/XT2OUT (io), B8 P7.2/XT2IN (io), B9 V18, B10 PUR (io), B11 VSSU (power), B12 VSSU (power), C1 P7.4/CB8/A12 (io), C2 P6.7/CB7/A7 (io), C3 P7.5/CB9/A13 (io), C11 P9.6 (io), C12 P9.5 (io), D1 P7.7/CB11/A15 (io), D2 P7.6/CB10/A14 (io), D4 VREF+/VeREF+/P5.0 (io), D5 P6.3/CB3/A3 (io), D6 PJ.3/TCK (io), D7 RTCCLK/P5.7 (io), D8 VBAT (io), D9 P9.7 (io), D11 P9.3 (io), D12 P9.2 (io), E1 AVCC1 (power), E2 AVCC1 (power), E4 VREF-/VeREF-/P5.1 (io), E5 GND (power), E6 GND (power), E7 PJ.2/TMS (io), E8 GND (power), E9 P9.4 (io), E11 P9.0 (io), E12 P8.7 (io), F1 XIN (io), F2 AVSS1 (power), F4 GND (power), F5 GND (power), F8 GND (power), F9 P9.1 (io), F11 P8.5/UCB1SIMO/UCB1SDA (io), F12 DVCC2 (power), G1 XOUT (io), G2 AVSS2 (power), G4 P2MAP0/P2.0 (io), G5 GND (power), G8 GND (power), G9 P8.6/UCB1SOMI/UCB1SCL (io), G11 P8.4/UCB1CLK/UCA1STE (io), G12 DVSS2 (power), H1 ADC12CLK/DMAE0/P5.6 (io), H2 P2MAP1/P2.1 (io), H4 P2MAP3/P2.3 (io), H5 GND (power), H6 TA0.2/P1.3 (io), H7 TA1.0/P3.1 (io), H8 GND (power), H9 GND (power), H11 P8.2/UCA1TXD/UCA1SIMO (io), H12 P8.3/UCA1RXD/UCA1SOMI (io), J1 P2MAP2/P2.2 (io), J2 P2MAP4/P2.4 (io), J5 P5.5 (io), J6 TA0.1/P1.2 (io), J7 TA0.1/P1.6 (io), J8 TA2CLK/SMCLK/P3.4 (io), J9 TB0.0/P4.0 (io), J11 P8.0/TB0CLK (io), J12 P8.1/UCB1STE/UCA1CLK (io), K1 P2MAP5/P2.5 (io), K2 P2MAP6/P2.6 (io), K11 TB0.6/P4.6 (io), K12 TB0OUTH/SVMOUT/P4.7 (io), L1 DVCC1 (power), L2 P2MAP7/P2.7 (io), L3 P5.2 (io), L4 P5.3 (io), L5 TA0CLK/ACLK/P1.0 (io), L6 TA0.4/P1.5 (io), L7 TA1CLK/CBOUT/P3.0 (io), L8 TA1.2/P3.3 (io), L9 TA2.1/P3.6 (io), L10 TB0.2/P4.2 (io), L11 TB0.5/P4.5 (io), L12 TB0.4/P4.4 (io), M1 DVSS1 (power), M2 VCORE (io), M3 DVSS (power), M4 P5.4 (io), M5 TA0.0/P1.1 (io), M6 TA0.3/P1.4 (io), M7 TA0.2/P1.7 (io), M8 TA1.1/P3.2 (io), M9 TA2.0/P3.5 (io), M10 TA2.2/P3.7 (io), M11 TB0.1/P4.1 (io), M12 TB0.3/P4.3 (io)

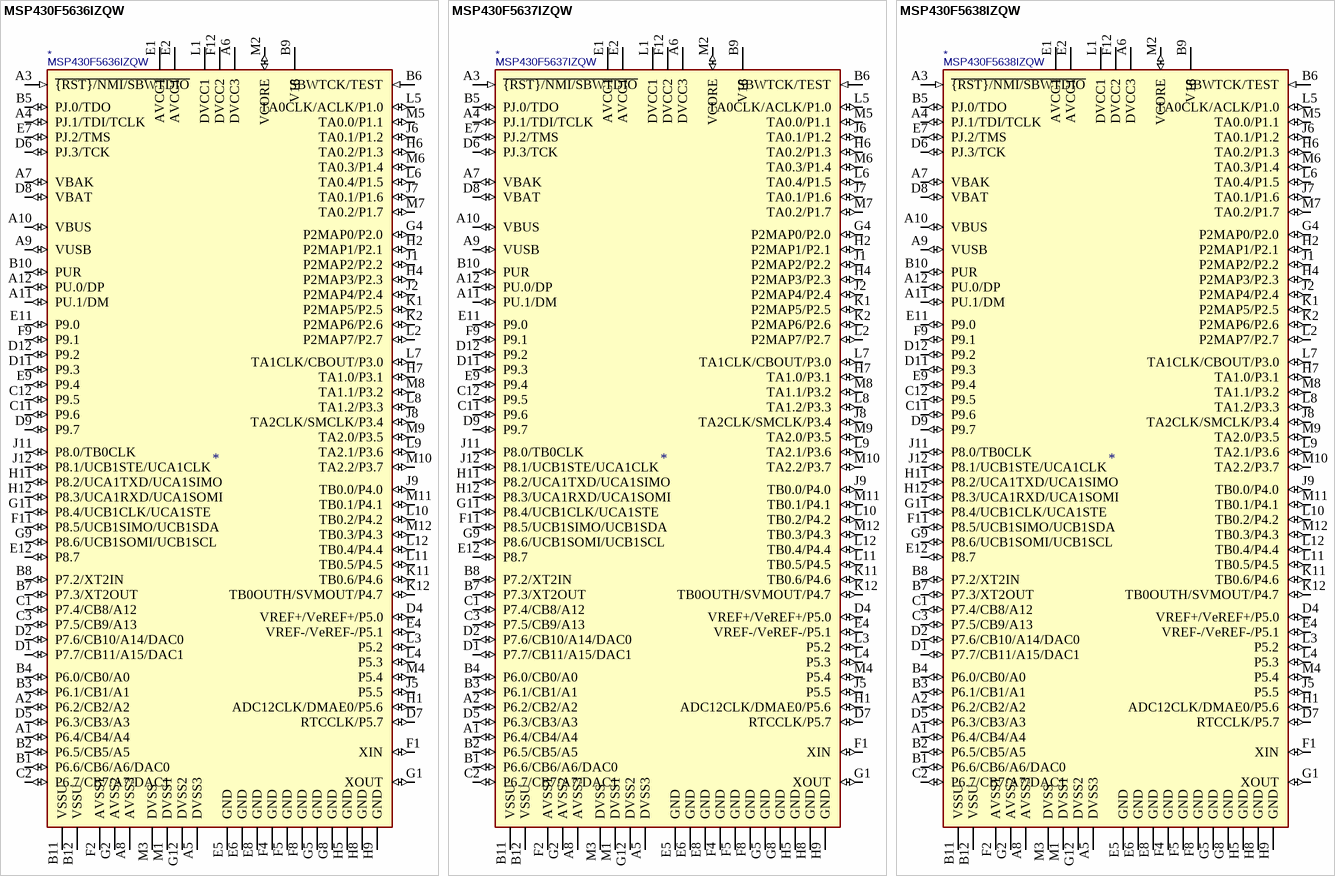
[diagram p19: symbols MSP430F5636IZQW to MSP430F5638IZQW]

## MSP430F5636IZQW
designator *  value MSP430F5636IZQW
ki_keywords: TI MSP430 16-bit mixed signal microcontroller; ki_description: 128kB Flash, 16kB + 2kB RAM, BGA-113; ki_fp_filters: Texas*MicroStar*Junior*BGA*7.0x7.0mm*Layout12x12*P0.5mm*; Footprint: Package_BGA:Texas_MicroStar_Junior_BGA-113_7.0x7.0mm_Layout12x12_P0.5mm; Supplier: http://www.ti.com/lit/ds/symlink/msp430f5636.pdf
footprint Texas_MicroStar_Junior_BGA-113_7.0x7.0mm_Layout12x12_P0.5mm
pins: A1 P6.4/CB4/A4 (io), A2 P6.2/CB2/A2 (io), A3 ~{{RST}/NMI/SBWTDIO} (in), A4 PJ.1/TDI/TCLK (io), A5 DVSS3 (power), A6 DVCC3 (power), A7 VBAK (io), A8 AVSS3 (power), A9 VUSB (io), A10 VBUS (io), A11 PU.1/DM (io), A12 PU.0/DP (io), B1 P6.6/CB6/A6/DAC0 (io), B2 P6.5/CB5/A5 (io), B3 P6.1/CB1/A1 (io), B4 P6.0/CB0/A0 (io), B5 PJ.0/TDO (io), B6 SBWTCK/TEST (in), B7 P7.3/XT2OUT (io), B8 P7.2/XT2IN (io), B9 V18, B10 PUR (io), B11 VSSU (power), B12 VSSU (power), C1 P7.4/CB8/A12 (io), C2 P6.7/CB7/A7/DAC1 (io), C3 P7.5/CB9/A13 (io), C11 P9.6 (io), C12 P9.5 (io), D1 P7.7/CB11/A15/DAC1 (io), D2 P7.6/CB10/A14/DAC0 (io), D4 VREF+/VeREF+/P5.0 (io), D5 P6.3/CB3/A3 (io), D6 PJ.3/TCK (io), D7 RTCCLK/P5.7 (io), D8 VBAT (io), D9 P9.7 (io), D11 P9.3 (io), D12 P9.2 (io), E1 AVCC1 (power), E2 AVCC1 (power), E4 VREF-/VeREF-/P5.1 (io), E5 GND (power), E6 GND (power), E7 PJ.2/TMS (io), E8 GND (power), E9 P9.4 (io), E11 P9.0 (io), E12 P8.7 (io), F1 XIN (io), F2 AVSS1 (power), F4 GND (power), F5 GND (power), F8 GND (power), F9 P9.1 (io), F11 P8.5/UCB1SIMO/UCB1SDA (io), F12 DVCC2 (power), G1 XOUT (io), G2 AVSS2 (power), G4 P2MAP0/P2.0 (io), G5 GND (power), G8 GND (power), G9 P8.6/UCB1SOMI/UCB1SCL (io), G11 P8.4/UCB1CLK/UCA1STE (io), G12 DVSS2 (power), H1 ADC12CLK/DMAE0/P5.6 (io), H2 P2MAP1/P2.1 (io), H4 P2MAP3/P2.3 (io), H5 GND (power), H6 TA0.2/P1.3 (io), H7 TA1.0/P3.1 (io), H8 GND (power), H9 GND (power), H11 P8.2/UCA1TXD/UCA1SIMO (io), H12 P8.3/UCA1RXD/UCA1SOMI (io), J1 P2MAP2/P2.2 (io), J2 P2MAP4/P2.4 (io), J5 P5.5 (io), J6 TA0.1/P1.2 (io), J7 TA0.1/P1.6 (io), J8 TA2CLK/SMCLK/P3.4 (io), J9 TB0.0/P4.0 (io), J11 P8.0/TB0CLK (io), J12 P8.1/UCB1STE/UCA1CLK (io), K1 P2MAP5/P2.5 (io), K2 P2MAP6/P2.6 (io), K11 TB0.6/P4.6 (io), K12 TB0OUTH/SVMOUT/P4.7 (io), L1 DVCC1 (power), L2 P2MAP7/P2.7 (io), L3 P5.2 (io), L4 P5.3 (io), L5 TA0CLK/ACLK/P1.0 (io), L6 TA0.4/P1.5 (io), L7 TA1CLK/CBOUT/P3.0 (io), L8 TA1.2/P3.3 (io), L9 TA2.1/P3.6 (io), L10 TB0.2/P4.2 (io), L11 TB0.5/P4.5 (io), L12 TB0.4/P4.4 (io), M1 DVSS1 (power), M2 VCORE (io), M3 DVSS (power), M4 P5.4 (io), M5 TA0.0/P1.1 (io), M6 TA0.3/P1.4 (io), M7 TA0.2/P1.7 (io), M8 TA1.1/P3.2 (io), M9 TA2.0/P3.5 (io), M10 TA2.2/P3.7 (io), M11 TB0.1/P4.1 (io), M12 TB0.3/P4.3 (io)

## MSP430F5637IZQW
designator *  value MSP430F5637IZQW
ki_keywords: TI MSP430 16-bit mixed signal microcontroller; ki_description: 192kB Flash, 16kB + 2kB RAM, BGA-113; ki_fp_filters: Texas*MicroStar*Junior*BGA*7.0x7.0mm*Layout12x12*P0.5mm*; Footprint: Package_BGA:Texas_MicroStar_Junior_BGA-113_7.0x7.0mm_Layout12x12_P0.5mm; Supplier: http://www.ti.com/lit/ds/symlink/msp430f5637.pdf
footprint Texas_MicroStar_Junior_BGA-113_7.0x7.0mm_Layout12x12_P0.5mm
pins: A1 P6.4/CB4/A4 (io), A2 P6.2/CB2/A2 (io), A3 ~{{RST}/NMI/SBWTDIO} (in), A4 PJ.1/TDI/TCLK (io), A5 DVSS3 (power), A6 DVCC3 (power), A7 VBAK (io), A8 AVSS3 (power), A9 VUSB (io), A10 VBUS (io), A11 PU.1/DM (io), A12 PU.0/DP (io), B1 P6.6/CB6/A6/DAC0 (io), B2 P6.5/CB5/A5 (io), B3 P6.1/CB1/A1 (io), B4 P6.0/CB0/A0 (io), B5 PJ.0/TDO (io), B6 SBWTCK/TEST (in), B7 P7.3/XT2OUT (io), B8 P7.2/XT2IN (io), B9 V18, B10 PUR (io), B11 VSSU (power), B12 VSSU (power), C1 P7.4/CB8/A12 (io), C2 P6.7/CB7/A7/DAC1 (io), C3 P7.5/CB9/A13 (io), C11 P9.6 (io), C12 P9.5 (io), D1 P7.7/CB11/A15/DAC1 (io), D2 P7.6/CB10/A14/DAC0 (io), D4 VREF+/VeREF+/P5.0 (io), D5 P6.3/CB3/A3 (io), D6 PJ.3/TCK (io), D7 RTCCLK/P5.7 (io), D8 VBAT (io), D9 P9.7 (io), D11 P9.3 (io), D12 P9.2 (io), E1 AVCC1 (power), E2 AVCC1 (power), E4 VREF-/VeREF-/P5.1 (io), E5 GND (power), E6 GND (power), E7 PJ.2/TMS (io), E8 GND (power), E9 P9.4 (io), E11 P9.0 (io), E12 P8.7 (io), F1 XIN (io), F2 AVSS1 (power), F4 GND (power), F5 GND (power), F8 GND (power), F9 P9.1 (io), F11 P8.5/UCB1SIMO/UCB1SDA (io), F12 DVCC2 (power), G1 XOUT (io), G2 AVSS2 (power), G4 P2MAP0/P2.0 (io), G5 GND (power), G8 GND (power), G9 P8.6/UCB1SOMI/UCB1SCL (io), G11 P8.4/UCB1CLK/UCA1STE (io), G12 DVSS2 (power), H1 ADC12CLK/DMAE0/P5.6 (io), H2 P2MAP1/P2.1 (io), H4 P2MAP3/P2.3 (io), H5 GND (power), H6 TA0.2/P1.3 (io), H7 TA1.0/P3.1 (io), H8 GND (power), H9 GND (power), H11 P8.2/UCA1TXD/UCA1SIMO (io), H12 P8.3/UCA1RXD/UCA1SOMI (io), J1 P2MAP2/P2.2 (io), J2 P2MAP4/P2.4 (io), J5 P5.5 (io), J6 TA0.1/P1.2 (io), J7 TA0.1/P1.6 (io), J8 TA2CLK/SMCLK/P3.4 (io), J9 TB0.0/P4.0 (io), J11 P8.0/TB0CLK (io), J12 P8.1/UCB1STE/UCA1CLK (io), K1 P2MAP5/P2.5 (io), K2 P2MAP6/P2.6 (io), K11 TB0.6/P4.6 (io), K12 TB0OUTH/SVMOUT/P4.7 (io), L1 DVCC1 (power), L2 P2MAP7/P2.7 (io), L3 P5.2 (io), L4 P5.3 (io), L5 TA0CLK/ACLK/P1.0 (io), L6 TA0.4/P1.5 (io), L7 TA1CLK/CBOUT/P3.0 (io), L8 TA1.2/P3.3 (io), L9 TA2.1/P3.6 (io), L10 TB0.2/P4.2 (io), L11 TB0.5/P4.5 (io), L12 TB0.4/P4.4 (io), M1 DVSS1 (power), M2 VCORE (io), M3 DVSS (power), M4 P5.4 (io), M5 TA0.0/P1.1 (io), M6 TA0.3/P1.4 (io), M7 TA0.2/P1.7 (io), M8 TA1.1/P3.2 (io), M9 TA2.0/P3.5 (io), M10 TA2.2/P3.7 (io), M11 TB0.1/P4.1 (io), M12 TB0.3/P4.3 (io)

## MSP430F5638IZQW
designator *  value MSP430F5638IZQW
ki_keywords: TI MSP430 16-bit mixed signal microcontroller; ki_description: 256kB Flash, 16kB + 2kB RAM, BGA-113; ki_fp_filters: Texas*MicroStar*Junior*BGA*7.0x7.0mm*Layout12x12*P0.5mm*; Footprint: Package_BGA:Texas_MicroStar_Junior_BGA-113_7.0x7.0mm_Layout12x12_P0.5mm; Supplier: http://www.ti.com/lit/ds/symlink/msp430f5638.pdf
footprint Texas_MicroStar_Junior_BGA-113_7.0x7.0mm_Layout12x12_P0.5mm
pins: A1 P6.4/CB4/A4 (io), A2 P6.2/CB2/A2 (io), A3 ~{{RST}/NMI/SBWTDIO} (in), A4 PJ.1/TDI/TCLK (io), A5 DVSS3 (power), A6 DVCC3 (power), A7 VBAK (io), A8 AVSS3 (power), A9 VUSB (io), A10 VBUS (io), A11 PU.1/DM (io), A12 PU.0/DP (io), B1 P6.6/CB6/A6/DAC0 (io), B2 P6.5/CB5/A5 (io), B3 P6.1/CB1/A1 (io), B4 P6.0/CB0/A0 (io), B5 PJ.0/TDO (io), B6 SBWTCK/TEST (in), B7 P7.3/XT2OUT (io), B8 P7.2/XT2IN (io), B9 V18, B10 PUR (io), B11 VSSU (power), B12 VSSU (power), C1 P7.4/CB8/A12 (io), C2 P6.7/CB7/A7/DAC1 (io), C3 P7.5/CB9/A13 (io), C11 P9.6 (io), C12 P9.5 (io), D1 P7.7/CB11/A15/DAC1 (io), D2 P7.6/CB10/A14/DAC0 (io), D4 VREF+/VeREF+/P5.0 (io), D5 P6.3/CB3/A3 (io), D6 PJ.3/TCK (io), D7 RTCCLK/P5.7 (io), D8 VBAT (io), D9 P9.7 (io), D11 P9.3 (io), D12 P9.2 (io), E1 AVCC1 (power), E2 AVCC1 (power), E4 VREF-/VeREF-/P5.1 (io), E5 GND (power), E6 GND (power), E7 PJ.2/TMS (io), E8 GND (power), E9 P9.4 (io), E11 P9.0 (io), E12 P8.7 (io), F1 XIN (io), F2 AVSS1 (power), F4 GND (power), F5 GND (power), F8 GND (power), F9 P9.1 (io), F11 P8.5/UCB1SIMO/UCB1SDA (io), F12 DVCC2 (power), G1 XOUT (io), G2 AVSS2 (power), G4 P2MAP0/P2.0 (io), G5 GND (power), G8 GND (power), G9 P8.6/UCB1SOMI/UCB1SCL (io), G11 P8.4/UCB1CLK/UCA1STE (io), G12 DVSS2 (power), H1 ADC12CLK/DMAE0/P5.6 (io), H2 P2MAP1/P2.1 (io), H4 P2MAP3/P2.3 (io), H5 GND (power), H6 TA0.2/P1.3 (io), H7 TA1.0/P3.1 (io), H8 GND (power), H9 GND (power), H11 P8.2/UCA1TXD/UCA1SIMO (io), H12 P8.3/UCA1RXD/UCA1SOMI (io), J1 P2MAP2/P2.2 (io), J2 P2MAP4/P2.4 (io), J5 P5.5 (io), J6 TA0.1/P1.2 (io), J7 TA0.1/P1.6 (io), J8 TA2CLK/SMCLK/P3.4 (io), J9 TB0.0/P4.0 (io), J11 P8.0/TB0CLK (io), J12 P8.1/UCB1STE/UCA1CLK (io), K1 P2MAP5/P2.5 (io), K2 P2MAP6/P2.6 (io), K11 TB0.6/P4.6 (io), K12 TB0OUTH/SVMOUT/P4.7 (io), L1 DVCC1 (power), L2 P2MAP7/P2.7 (io), L3 P5.2 (io), L4 P5.3 (io), L5 TA0CLK/ACLK/P1.0 (io), L6 TA0.4/P1.5 (io), L7 TA1CLK/CBOUT/P3.0 (io), L8 TA1.2/P3.3 (io), L9 TA2.1/P3.6 (io), L10 TB0.2/P4.2 (io), L11 TB0.5/P4.5 (io), L12 TB0.4/P4.4 (io), M1 DVSS1 (power), M2 VCORE (io), M3 DVSS (power), M4 P5.4 (io), M5 TA0.0/P1.1 (io), M6 TA0.3/P1.4 (io), M7 TA0.2/P1.7 (io), M8 TA1.1/P3.2 (io), M9 TA2.0/P3.5 (io), M10 TA2.2/P3.7 (io), M11 TB0.1/P4.1 (io), M12 TB0.3/P4.3 (io)

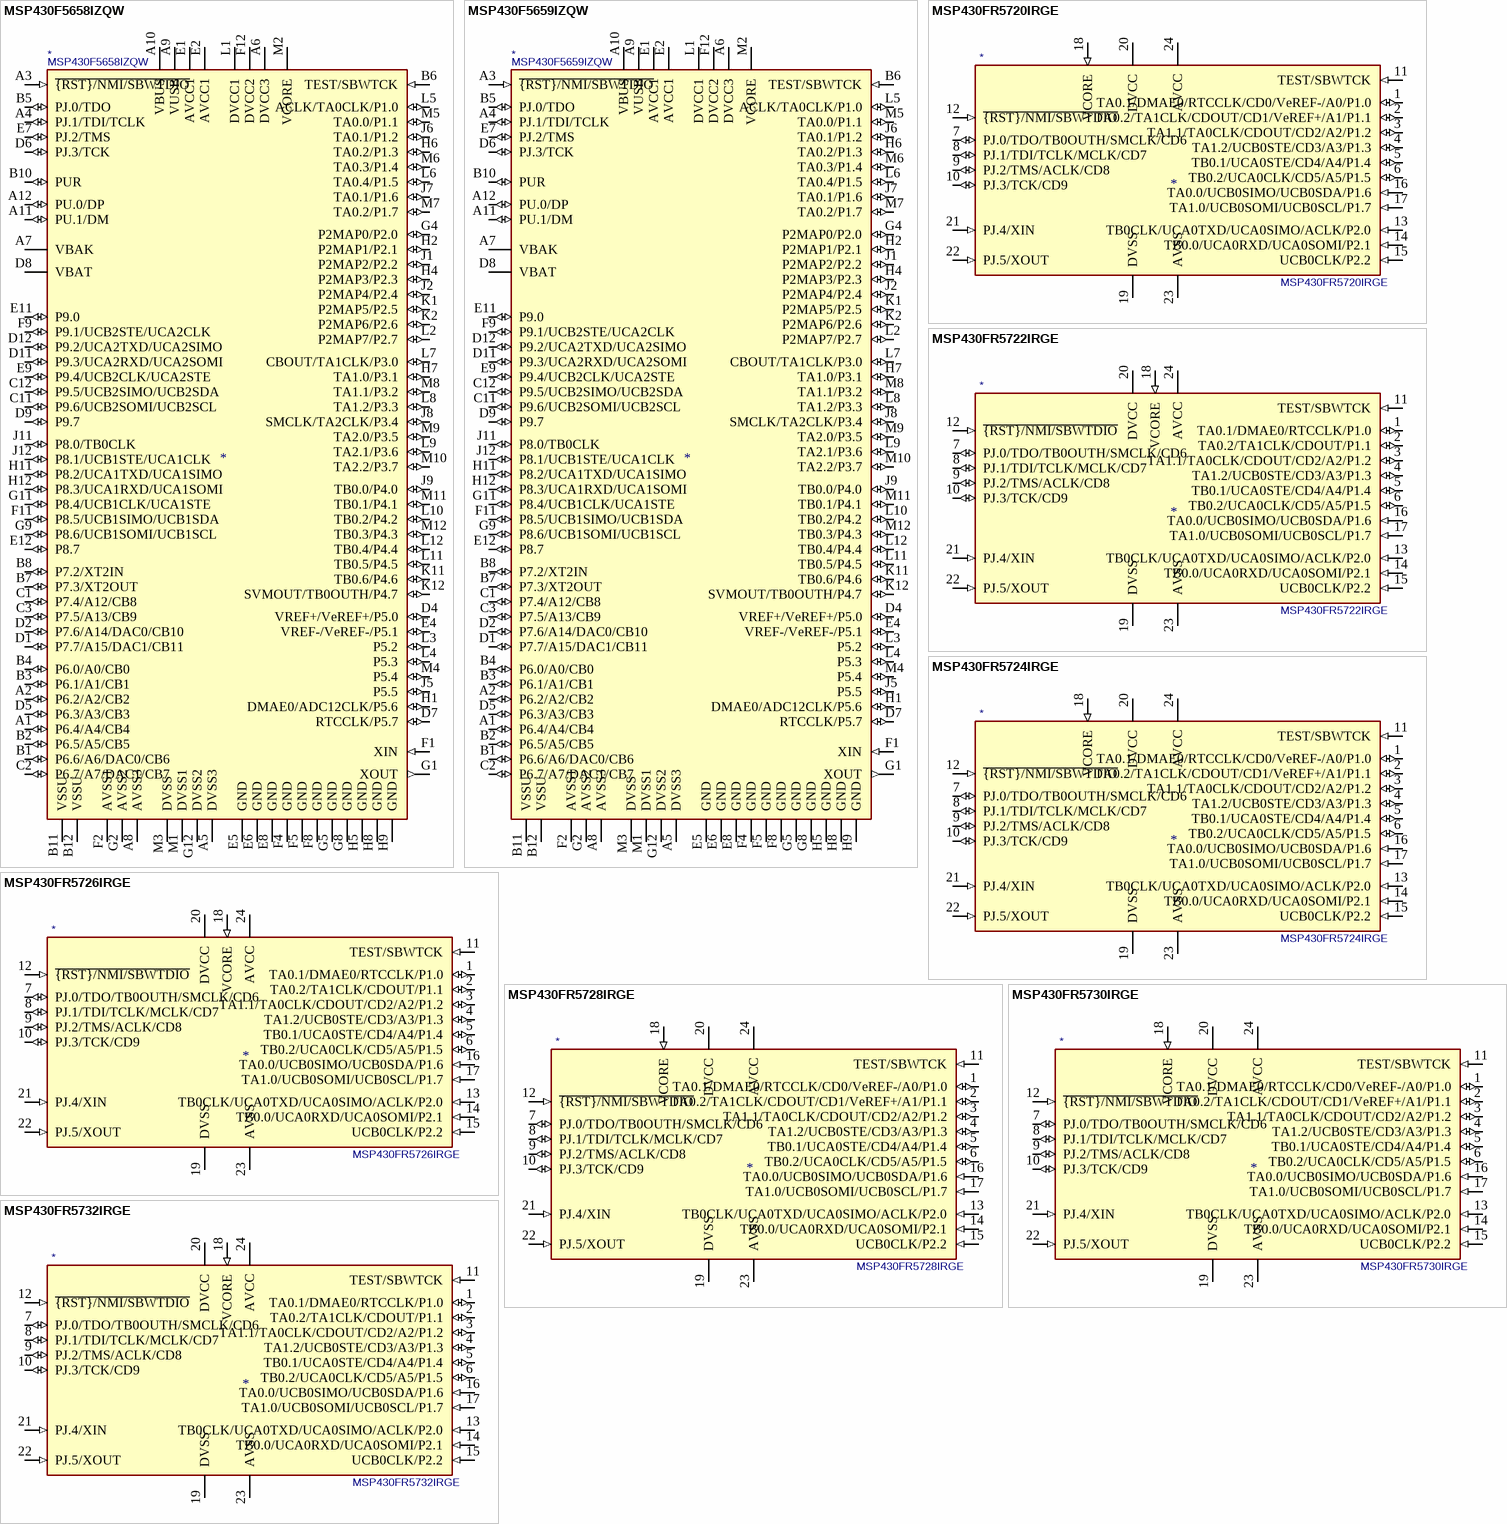
[diagram p20: symbols MSP430F5658IZQW to MSP430FR5732IRGE]

## MSP430F5658IZQW
designator *  value MSP430F5658IZQW
ki_keywords: TI MSP430 16-bit mixed signal microcontroller; ki_description: 384kB Flash, 32kB + 2kB RAM, BGA-113; ki_fp_filters: Texas*MicroStar*Junior*BGA*7.0x7.0mm*Layout12x12*P0.5mm*; Footprint: Package_BGA:Texas_MicroStar_Junior_BGA-113_7.0x7.0mm_Layout12x12_P0.5mm; Supplier: http://www.ti.com/lit/ds/symlink/msp430f5658.pdf
footprint Texas_MicroStar_Junior_BGA-113_7.0x7.0mm_Layout12x12_P0.5mm
pins: A1 P6.4/A4/CB4 (io), A2 P6.2/A2/CB2 (io), A3 ~{{RST}/NMI/SBWTDIO} (in), A4 PJ.1/TDI/TCLK (io), A5 DVSS3 (power), A6 DVCC3 (power), A7 VBAK, A8 AVSS3 (power), A9 VUSB, A10 VBUS, A11 PU.1/DM (io), A12 PU.0/DP (io), B1 P6.6/A6/DAC0/CB6 (io), B2 P6.5/A5/CB5 (io), B3 P6.1/A1/CB1 (io), B4 P6.0/A0/CB0 (io), B5 PJ.0/TDO (io), B6 TEST/SBWTCK (in), B7 P7.3/XT2OUT (io), B8 P7.2/XT2IN (io), B10 PUR (io), B11 VSSU (power), B12 VSSU (power), C1 P7.4/A12/CB8 (io), C2 P6.7/A7/DAC1/CB7 (io), C3 P7.5/A13/CB9 (io), C11 P9.6/UCB2SOMI/UCB2SCL (io), C12 P9.5/UCB2SIMO/UCB2SDA (io), D1 P7.7/A15/DAC1/CB11 (io), D2 P7.6/A14/DAC0/CB10 (io), D4 VREF+/VeREF+/P5.0 (io), D5 P6.3/A3/CB3 (io), D6 PJ.3/TCK (io), D7 RTCCLK/P5.7 (io), D8 VBAT, D9 P9.7 (io), D11 P9.3/UCA2RXD/UCA2SOMI (io), D12 P9.2/UCA2TXD/UCA2SIMO (io), E1 AVCC1 (power), E2 AVCC1 (power), E4 VREF-/VeREF-/P5.1 (io), E5 GND (power), E6 GND (power), E7 PJ.2/TMS (io), E8 GND (power), E9 P9.4/UCB2CLK/UCA2STE (io), E11 P9.0 (io), E12 P8.7 (io), F1 XIN (in), F2 AVSS1 (power), F4 GND (power), F5 GND (power), F8 GND (power), F9 P9.1/UCB2STE/UCA2CLK (io), F11 P8.5/UCB1SIMO/UCB1SDA (io), F12 DVCC2 (power), G1 XOUT (out), G2 AVSS2 (power), G4 P2MAP0/P2.0 (io), G5 GND (power), G8 GND (power), G9 P8.6/UCB1SOMI/UCB1SCL (io), G11 P8.4/UCB1CLK/UCA1STE (io), G12 DVSS2 (power), H1 DMAE0/ADC12CLK/P5.6 (io), H2 P2MAP1/P2.1 (io), H4 P2MAP3/P2.3 (io), H5 GND (power), H6 TA0.2/P1.3 (io), H7 TA1.0/P3.1 (io), H8 GND (power), H9 GND (power), H11 P8.2/UCA1TXD/UCA1SIMO (io), H12 P8.3/UCA1RXD/UCA1SOMI (io), J1 P2MAP2/P2.2 (io), J2 P2MAP4/P2.4 (io), J5 P5.5 (io), J6 TA0.1/P1.2 (io), J7 TA0.1/P1.6 (io), J8 SMCLK/TA2CLK/P3.4 (io), J9 TB0.0/P4.0 (io), J11 P8.0/TB0CLK (io), J12 P8.1/UCB1STE/UCA1CLK (io), K1 P2MAP5/P2.5 (io), K2 P2MAP6/P2.6 (io), K11 TB0.6/P4.6 (io), K12 SVMOUT/TB0OUTH/P4.7 (io), L1 DVCC1 (power), L2 P2MAP7/P2.7 (io), L3 P5.2 (io), L4 P5.3 (io), L5 ACLK/TA0CLK/P1.0 (io), L6 TA0.4/P1.5 (io), L7 CBOUT/TA1CLK/P3.0 (io), L8 TA1.2/P3.3 (io), L9 TA2.1/P3.6 (io), L10 TB0.2/P4.2 (io), L11 TB0.5/P4.5 (io), L12 TB0.4/P4.4 (io), M1 DVSS1 (power), M2 VCORE (power), M3 DVSS (power), M4 P5.4 (io), M5 TA0.0/P1.1 (io), M6 TA0.3/P1.4 (io), M7 TA0.2/P1.7 (io), M8 TA1.1/P3.2 (io), M9 TA2.0/P3.5 (io), M10 TA2.2/P3.7 (io), M11 TB0.1/P4.1 (io), M12 TB0.3/P4.3 (io)

## MSP430F5659IZQW
designator *  value MSP430F5659IZQW
ki_keywords: TI MSP430 16-bit mixed signal microcontroller; ki_description: 512kB Flash, 64kB + 2kB RAM, BGA-113; ki_fp_filters: Texas*MicroStar*Junior*BGA*7.0x7.0mm*Layout12x12*P0.5mm*; Footprint: Package_BGA:Texas_MicroStar_Junior_BGA-113_7.0x7.0mm_Layout12x12_P0.5mm; Supplier: http://www.ti.com/lit/ds/symlink/msp430f5659.pdf
footprint Texas_MicroStar_Junior_BGA-113_7.0x7.0mm_Layout12x12_P0.5mm
pins: A1 P6.4/A4/CB4 (io), A2 P6.2/A2/CB2 (io), A3 ~{{RST}/NMI/SBWTDIO} (in), A4 PJ.1/TDI/TCLK (io), A5 DVSS3 (power), A6 DVCC3 (power), A7 VBAK, A8 AVSS3 (power), A9 VUSB, A10 VBUS, A11 PU.1/DM (io), A12 PU.0/DP (io), B1 P6.6/A6/DAC0/CB6 (io), B2 P6.5/A5/CB5 (io), B3 P6.1/A1/CB1 (io), B4 P6.0/A0/CB0 (io), B5 PJ.0/TDO (io), B6 TEST/SBWTCK (in), B7 P7.3/XT2OUT (io), B8 P7.2/XT2IN (io), B10 PUR (io), B11 VSSU (power), B12 VSSU (power), C1 P7.4/A12/CB8 (io), C2 P6.7/A7/DAC1/CB7 (io), C3 P7.5/A13/CB9 (io), C11 P9.6/UCB2SOMI/UCB2SCL (io), C12 P9.5/UCB2SIMO/UCB2SDA (io), D1 P7.7/A15/DAC1/CB11 (io), D2 P7.6/A14/DAC0/CB10 (io), D4 VREF+/VeREF+/P5.0 (io), D5 P6.3/A3/CB3 (io), D6 PJ.3/TCK (io), D7 RTCCLK/P5.7 (io), D8 VBAT, D9 P9.7 (io), D11 P9.3/UCA2RXD/UCA2SOMI (io), D12 P9.2/UCA2TXD/UCA2SIMO (io), E1 AVCC1 (power), E2 AVCC1 (power), E4 VREF-/VeREF-/P5.1 (io), E5 GND (power), E6 GND (power), E7 PJ.2/TMS (io), E8 GND (power), E9 P9.4/UCB2CLK/UCA2STE (io), E11 P9.0 (io), E12 P8.7 (io), F1 XIN (in), F2 AVSS1 (power), F4 GND (power), F5 GND (power), F8 GND (power), F9 P9.1/UCB2STE/UCA2CLK (io), F11 P8.5/UCB1SIMO/UCB1SDA (io), F12 DVCC2 (power), G1 XOUT (out), G2 AVSS2 (power), G4 P2MAP0/P2.0 (io), G5 GND (power), G8 GND (power), G9 P8.6/UCB1SOMI/UCB1SCL (io), G11 P8.4/UCB1CLK/UCA1STE (io), G12 DVSS2 (power), H1 DMAE0/ADC12CLK/P5.6 (io), H2 P2MAP1/P2.1 (io), H4 P2MAP3/P2.3 (io), H5 GND (power), H6 TA0.2/P1.3 (io), H7 TA1.0/P3.1 (io), H8 GND (power), H9 GND (power), H11 P8.2/UCA1TXD/UCA1SIMO (io), H12 P8.3/UCA1RXD/UCA1SOMI (io), J1 P2MAP2/P2.2 (io), J2 P2MAP4/P2.4 (io), J5 P5.5 (io), J6 TA0.1/P1.2 (io), J7 TA0.1/P1.6 (io), J8 SMCLK/TA2CLK/P3.4 (io), J9 TB0.0/P4.0 (io), J11 P8.0/TB0CLK (io), J12 P8.1/UCB1STE/UCA1CLK (io), K1 P2MAP5/P2.5 (io), K2 P2MAP6/P2.6 (io), K11 TB0.6/P4.6 (io), K12 SVMOUT/TB0OUTH/P4.7 (io), L1 DVCC1 (power), L2 P2MAP7/P2.7 (io), L3 P5.2 (io), L4 P5.3 (io), L5 ACLK/TA0CLK/P1.0 (io), L6 TA0.4/P1.5 (io), L7 CBOUT/TA1CLK/P3.0 (io), L8 TA1.2/P3.3 (io), L9 TA2.1/P3.6 (io), L10 TB0.2/P4.2 (io), L11 TB0.5/P4.5 (io), L12 TB0.4/P4.4 (io), M1 DVSS1 (power), M2 VCORE (power), M3 DVSS (power), M4 P5.4 (io), M5 TA0.0/P1.1 (io), M6 TA0.3/P1.4 (io), M7 TA0.2/P1.7 (io), M8 TA1.1/P3.2 (io), M9 TA2.0/P3.5 (io), M10 TA2.2/P3.7 (io), M11 TB0.1/P4.1 (io), M12 TB0.3/P4.3 (io)

## MSP430FR5720IRGE
designator *  value MSP430FR5720IRGE
ki_keywords: TI MSP430 16-bit mixed signal microcontroller; ki_description: 4kB FRAM, 1kB SRAM, QFN-24; ki_fp_filters: Texas*S?PVQFN*; Footprint: Package_DFN_QFN:Texas_S-PVQFN-N24_EP2.1x2.1mm; Supplier: http://www.ti.com/lit/ds/symlink/msp430fr5720.pdf
footprint Texas_S-PVQFN-N24_EP2.1x2.1mm
pins: 1 TA0.1/DMAE0/RTCCLK/CD0/VeREF-/A0/P1.0 (io), 2 TA0.2/TA1CLK/CDOUT/CD1/VeREF+/A1/P1.1 (io), 3 TA1.1/TA0CLK/CDOUT/CD2/A2/P1.2 (io), 4 TA1.2/UCB0STE/CD3/A3/P1.3 (io), 5 TB0.1/UCA0STE/CD4/A4/P1.4 (io), 6 TB0.2/UCA0CLK/CD5/A5/P1.5 (io), 7 PJ.0/TDO/TB0OUTH/SMCLK/CD6 (io), 8 PJ.1/TDI/TCLK/MCLK/CD7 (io), 9 PJ.2/TMS/ACLK/CD8 (io), 10 PJ.3/TCK/CD9 (io), 11 TEST/SBWTCK (in), 12 ~{{RST}/NMI/SBWTDIO} (in), 13 TB0CLK/UCA0TXD/UCA0SIMO/ACLK/P2.0 (in), 14 TB0.0/UCA0RXD/UCA0SOMI/P2.1 (in), 15 UCB0CLK/P2.2 (in), 16 TA0.0/UCB0SIMO/UCB0SDA/P1.6 (in), 17 TA1.0/UCB0SOMI/UCB0SCL/P1.7 (in), 18 VCORE (in), 19 DVSS (power), 20 DVCC (power), 21 PJ.4/XIN (in), 22 PJ.5/XOUT (in), 23 AVSS (power), 24 AVCC (power)

## MSP430FR5722IRGE
designator *  value MSP430FR5722IRGE
ki_keywords: TI MSP430 16-bit mixed signal microcontroller; ki_description: 8kB FRAM, 1kB SRAM, QFN-24; ki_fp_filters: Texas*S?PVQFN*; Footprint: Package_DFN_QFN:Texas_S-PVQFN-N24_EP2.1x2.1mm; Supplier: http://www.ti.com/lit/ds/symlink/msp430fr5722.pdf
footprint Texas_S-PVQFN-N24_EP2.1x2.1mm
pins: 1 TA0.1/DMAE0/RTCCLK/P1.0 (io), 2 TA0.2/TA1CLK/CDOUT/P1.1 (io), 3 TA1.1/TA0CLK/CDOUT/CD2/A2/P1.2 (io), 4 TA1.2/UCB0STE/CD3/A3/P1.3 (io), 5 TB0.1/UCA0STE/CD4/A4/P1.4 (io), 6 TB0.2/UCA0CLK/CD5/A5/P1.5 (io), 7 PJ.0/TDO/TB0OUTH/SMCLK/CD6 (io), 8 PJ.1/TDI/TCLK/MCLK/CD7 (io), 9 PJ.2/TMS/ACLK/CD8 (io), 10 PJ.3/TCK/CD9 (io), 11 TEST/SBWTCK (in), 12 ~{{RST}/NMI/SBWTDIO} (in), 13 TB0CLK/UCA0TXD/UCA0SIMO/ACLK/P2.0 (in), 14 TB0.0/UCA0RXD/UCA0SOMI/P2.1 (in), 15 UCB0CLK/P2.2 (in), 16 TA0.0/UCB0SIMO/UCB0SDA/P1.6 (in), 17 TA1.0/UCB0SOMI/UCB0SCL/P1.7 (in), 18 VCORE (in), 19 DVSS (power), 20 DVCC (power), 21 PJ.4/XIN (in), 22 PJ.5/XOUT (in), 23 AVSS (power), 24 AVCC (power)

## MSP430FR5724IRGE
designator *  value MSP430FR5724IRGE
ki_keywords: TI MSP430 16-bit mixed signal microcontroller; ki_description: 8kB FRAM, 1kB SRAM, QFN-24; ki_fp_filters: Texas*S?PVQFN*; Footprint: Package_DFN_QFN:Texas_S-PVQFN-N24_EP2.1x2.1mm; Supplier: http://www.ti.com/lit/ds/symlink/msp430fr5724.pdf
footprint Texas_S-PVQFN-N24_EP2.1x2.1mm
pins: 1 TA0.1/DMAE0/RTCCLK/CD0/VeREF-/A0/P1.0 (io), 2 TA0.2/TA1CLK/CDOUT/CD1/VeREF+/A1/P1.1 (io), 3 TA1.1/TA0CLK/CDOUT/CD2/A2/P1.2 (io), 4 TA1.2/UCB0STE/CD3/A3/P1.3 (io), 5 TB0.1/UCA0STE/CD4/A4/P1.4 (io), 6 TB0.2/UCA0CLK/CD5/A5/P1.5 (io), 7 PJ.0/TDO/TB0OUTH/SMCLK/CD6 (io), 8 PJ.1/TDI/TCLK/MCLK/CD7 (io), 9 PJ.2/TMS/ACLK/CD8 (io), 10 PJ.3/TCK/CD9 (io), 11 TEST/SBWTCK (in), 12 ~{{RST}/NMI/SBWTDIO} (in), 13 TB0CLK/UCA0TXD/UCA0SIMO/ACLK/P2.0 (in), 14 TB0.0/UCA0RXD/UCA0SOMI/P2.1 (in), 15 UCB0CLK/P2.2 (in), 16 TA0.0/UCB0SIMO/UCB0SDA/P1.6 (in), 17 TA1.0/UCB0SOMI/UCB0SCL/P1.7 (in), 18 VCORE (in), 19 DVSS (power), 20 DVCC (power), 21 PJ.4/XIN (in), 22 PJ.5/XOUT (in), 23 AVSS (power), 24 AVCC (power)

## MSP430FR5726IRGE
designator *  value MSP430FR5726IRGE
ki_keywords: TI MSP430 16-bit mixed signal microcontroller; ki_description: 16kB FRAM, 1kB SRAM, QFN-24; ki_fp_filters: Texas*S?PVQFN*; Footprint: Package_DFN_QFN:Texas_S-PVQFN-N24_EP2.1x2.1mm; Supplier: http://www.ti.com/lit/ds/symlink/msp430fr5726.pdf
footprint Texas_S-PVQFN-N24_EP2.1x2.1mm
pins: 1 TA0.1/DMAE0/RTCCLK/P1.0 (io), 2 TA0.2/TA1CLK/CDOUT/P1.1 (io), 3 TA1.1/TA0CLK/CDOUT/CD2/A2/P1.2 (io), 4 TA1.2/UCB0STE/CD3/A3/P1.3 (io), 5 TB0.1/UCA0STE/CD4/A4/P1.4 (io), 6 TB0.2/UCA0CLK/CD5/A5/P1.5 (io), 7 PJ.0/TDO/TB0OUTH/SMCLK/CD6 (io), 8 PJ.1/TDI/TCLK/MCLK/CD7 (io), 9 PJ.2/TMS/ACLK/CD8 (io), 10 PJ.3/TCK/CD9 (io), 11 TEST/SBWTCK (in), 12 ~{{RST}/NMI/SBWTDIO} (in), 13 TB0CLK/UCA0TXD/UCA0SIMO/ACLK/P2.0 (in), 14 TB0.0/UCA0RXD/UCA0SOMI/P2.1 (in), 15 UCB0CLK/P2.2 (in), 16 TA0.0/UCB0SIMO/UCB0SDA/P1.6 (in), 17 TA1.0/UCB0SOMI/UCB0SCL/P1.7 (in), 18 VCORE (in), 19 DVSS (power), 20 DVCC (power), 21 PJ.4/XIN (in), 22 PJ.5/XOUT (in), 23 AVSS (power), 24 AVCC (power)

## MSP430FR5728IRGE
designator *  value MSP430FR5728IRGE
ki_keywords: TI MSP430 16-bit mixed signal microcontroller; ki_description: 16kB FRAM, 1kB SRAM, QFN-24; ki_fp_filters: Texas*S?PVQFN*; Footprint: Package_DFN_QFN:Texas_S-PVQFN-N24_EP2.1x2.1mm; Supplier: http://www.ti.com/lit/ds/symlink/msp430fr5728.pdf
footprint Texas_S-PVQFN-N24_EP2.1x2.1mm
pins: 1 TA0.1/DMAE0/RTCCLK/CD0/VeREF-/A0/P1.0 (io), 2 TA0.2/TA1CLK/CDOUT/CD1/VeREF+/A1/P1.1 (io), 3 TA1.1/TA0CLK/CDOUT/CD2/A2/P1.2 (io), 4 TA1.2/UCB0STE/CD3/A3/P1.3 (io), 5 TB0.1/UCA0STE/CD4/A4/P1.4 (io), 6 TB0.2/UCA0CLK/CD5/A5/P1.5 (io), 7 PJ.0/TDO/TB0OUTH/SMCLK/CD6 (io), 8 PJ.1/TDI/TCLK/MCLK/CD7 (io), 9 PJ.2/TMS/ACLK/CD8 (io), 10 PJ.3/TCK/CD9 (io), 11 TEST/SBWTCK (in), 12 ~{{RST}/NMI/SBWTDIO} (in), 13 TB0CLK/UCA0TXD/UCA0SIMO/ACLK/P2.0 (in), 14 TB0.0/UCA0RXD/UCA0SOMI/P2.1 (in), 15 UCB0CLK/P2.2 (in), 16 TA0.0/UCB0SIMO/UCB0SDA/P1.6 (in), 17 TA1.0/UCB0SOMI/UCB0SCL/P1.7 (in), 18 VCORE (in), 19 DVSS (power), 20 DVCC (power), 21 PJ.4/XIN (in), 22 PJ.5/XOUT (in), 23 AVSS (power), 24 AVCC (power)

## MSP430FR5730IRGE
designator *  value MSP430FR5730IRGE
ki_keywords: TI MSP430 16-bit mixed signal microcontroller; ki_description: 4kB FRAM, 1kB SRAM, QFN-24; ki_fp_filters: Texas*S?PVQFN*; Footprint: Package_DFN_QFN:Texas_S-PVQFN-N24_EP2.1x2.1mm; Supplier: http://www.ti.com/lit/ds/symlink/msp430fr5730.pdf
footprint Texas_S-PVQFN-N24_EP2.1x2.1mm
pins: 1 TA0.1/DMAE0/RTCCLK/CD0/VeREF-/A0/P1.0 (io), 2 TA0.2/TA1CLK/CDOUT/CD1/VeREF+/A1/P1.1 (io), 3 TA1.1/TA0CLK/CDOUT/CD2/A2/P1.2 (io), 4 TA1.2/UCB0STE/CD3/A3/P1.3 (io), 5 TB0.1/UCA0STE/CD4/A4/P1.4 (io), 6 TB0.2/UCA0CLK/CD5/A5/P1.5 (io), 7 PJ.0/TDO/TB0OUTH/SMCLK/CD6 (io), 8 PJ.1/TDI/TCLK/MCLK/CD7 (io), 9 PJ.2/TMS/ACLK/CD8 (io), 10 PJ.3/TCK/CD9 (io), 11 TEST/SBWTCK (in), 12 ~{{RST}/NMI/SBWTDIO} (in), 13 TB0CLK/UCA0TXD/UCA0SIMO/ACLK/P2.0 (in), 14 TB0.0/UCA0RXD/UCA0SOMI/P2.1 (in), 15 UCB0CLK/P2.2 (in), 16 TA0.0/UCB0SIMO/UCB0SDA/P1.6 (in), 17 TA1.0/UCB0SOMI/UCB0SCL/P1.7 (in), 18 VCORE (in), 19 DVSS (power), 20 DVCC (power), 21 PJ.4/XIN (in), 22 PJ.5/XOUT (in), 23 AVSS (power), 24 AVCC (power)

## MSP430FR5732IRGE
designator *  value MSP430FR5732IRGE
ki_keywords: TI MSP430 16-bit mixed signal microcontroller; ki_description: 8kB FRAM, 1kB SRAM, QFN-24; ki_fp_filters: Texas*S?PVQFN*; Footprint: Package_DFN_QFN:Texas_S-PVQFN-N24_EP2.1x2.1mm; Supplier: http://www.ti.com/lit/ds/symlink/msp430fr5732.pdf
footprint Texas_S-PVQFN-N24_EP2.1x2.1mm
pins: 1 TA0.1/DMAE0/RTCCLK/P1.0 (io), 2 TA0.2/TA1CLK/CDOUT/P1.1 (io), 3 TA1.1/TA0CLK/CDOUT/CD2/A2/P1.2 (io), 4 TA1.2/UCB0STE/CD3/A3/P1.3 (io), 5 TB0.1/UCA0STE/CD4/A4/P1.4 (io), 6 TB0.2/UCA0CLK/CD5/A5/P1.5 (io), 7 PJ.0/TDO/TB0OUTH/SMCLK/CD6 (io), 8 PJ.1/TDI/TCLK/MCLK/CD7 (io), 9 PJ.2/TMS/ACLK/CD8 (io), 10 PJ.3/TCK/CD9 (io), 11 TEST/SBWTCK (in), 12 ~{{RST}/NMI/SBWTDIO} (in), 13 TB0CLK/UCA0TXD/UCA0SIMO/ACLK/P2.0 (in), 14 TB0.0/UCA0RXD/UCA0SOMI/P2.1 (in), 15 UCB0CLK/P2.2 (in), 16 TA0.0/UCB0SIMO/UCB0SDA/P1.6 (in), 17 TA1.0/UCB0SOMI/UCB0SCL/P1.7 (in), 18 VCORE (in), 19 DVSS (power), 20 DVCC (power), 21 PJ.4/XIN (in), 22 PJ.5/XOUT (in), 23 AVSS (power), 24 AVCC (power)

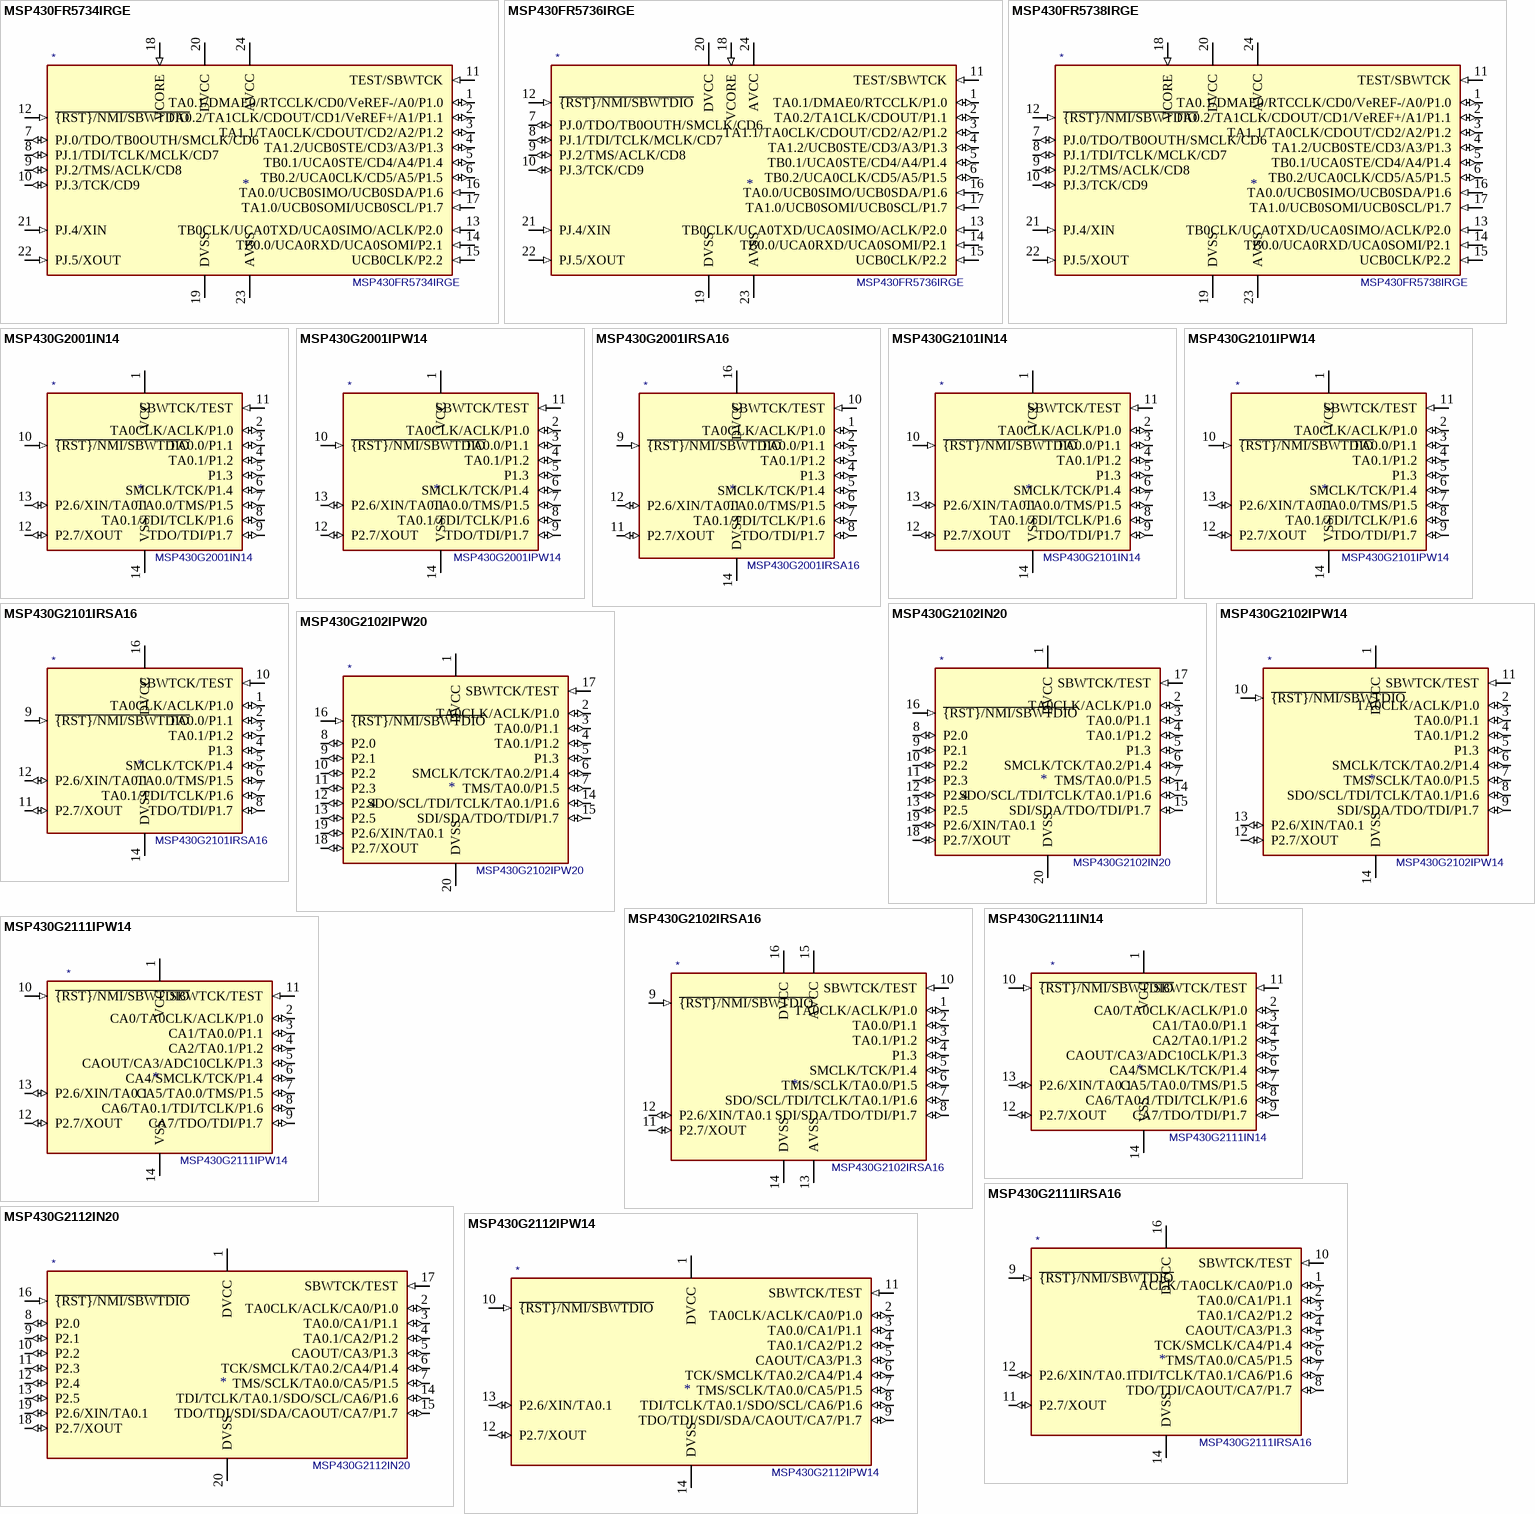
[diagram p21: symbols MSP430FR5734IRGE to MSP430G2112IPW14]

## MSP430FR5734IRGE
designator *  value MSP430FR5734IRGE
ki_keywords: TI MSP430 16-bit mixed signal microcontroller; ki_description: 8kB FRAM, 1kB SRAM, QFN-24; ki_fp_filters: Texas*S?PVQFN*; Footprint: Package_DFN_QFN:Texas_S-PVQFN-N24_EP2.1x2.1mm; Supplier: http://www.ti.com/lit/ds/symlink/msp430fr5734.pdf
footprint Texas_S-PVQFN-N24_EP2.1x2.1mm
pins: 1 TA0.1/DMAE0/RTCCLK/CD0/VeREF-/A0/P1.0 (io), 2 TA0.2/TA1CLK/CDOUT/CD1/VeREF+/A1/P1.1 (io), 3 TA1.1/TA0CLK/CDOUT/CD2/A2/P1.2 (io), 4 TA1.2/UCB0STE/CD3/A3/P1.3 (io), 5 TB0.1/UCA0STE/CD4/A4/P1.4 (io), 6 TB0.2/UCA0CLK/CD5/A5/P1.5 (io), 7 PJ.0/TDO/TB0OUTH/SMCLK/CD6 (io), 8 PJ.1/TDI/TCLK/MCLK/CD7 (io), 9 PJ.2/TMS/ACLK/CD8 (io), 10 PJ.3/TCK/CD9 (io), 11 TEST/SBWTCK (in), 12 ~{{RST}/NMI/SBWTDIO} (in), 13 TB0CLK/UCA0TXD/UCA0SIMO/ACLK/P2.0 (in), 14 TB0.0/UCA0RXD/UCA0SOMI/P2.1 (in), 15 UCB0CLK/P2.2 (in), 16 TA0.0/UCB0SIMO/UCB0SDA/P1.6 (in), 17 TA1.0/UCB0SOMI/UCB0SCL/P1.7 (in), 18 VCORE (in), 19 DVSS (power), 20 DVCC (power), 21 PJ.4/XIN (in), 22 PJ.5/XOUT (in), 23 AVSS (power), 24 AVCC (power)

## MSP430FR5736IRGE
designator *  value MSP430FR5736IRGE
ki_keywords: TI MSP430 16-bit mixed signal microcontroller; ki_description: 16kB FRAM, 1kB SRAM, QFN-24; ki_fp_filters: Texas*S?PVQFN*; Footprint: Package_DFN_QFN:Texas_S-PVQFN-N24_EP2.1x2.1mm; Supplier: http://www.ti.com/lit/ds/symlink/msp430fr5736.pdf
footprint Texas_S-PVQFN-N24_EP2.1x2.1mm
pins: 1 TA0.1/DMAE0/RTCCLK/P1.0 (io), 2 TA0.2/TA1CLK/CDOUT/P1.1 (io), 3 TA1.1/TA0CLK/CDOUT/CD2/A2/P1.2 (io), 4 TA1.2/UCB0STE/CD3/A3/P1.3 (io), 5 TB0.1/UCA0STE/CD4/A4/P1.4 (io), 6 TB0.2/UCA0CLK/CD5/A5/P1.5 (io), 7 PJ.0/TDO/TB0OUTH/SMCLK/CD6 (io), 8 PJ.1/TDI/TCLK/MCLK/CD7 (io), 9 PJ.2/TMS/ACLK/CD8 (io), 10 PJ.3/TCK/CD9 (io), 11 TEST/SBWTCK (in), 12 ~{{RST}/NMI/SBWTDIO} (in), 13 TB0CLK/UCA0TXD/UCA0SIMO/ACLK/P2.0 (in), 14 TB0.0/UCA0RXD/UCA0SOMI/P2.1 (in), 15 UCB0CLK/P2.2 (in), 16 TA0.0/UCB0SIMO/UCB0SDA/P1.6 (in), 17 TA1.0/UCB0SOMI/UCB0SCL/P1.7 (in), 18 VCORE (in), 19 DVSS (power), 20 DVCC (power), 21 PJ.4/XIN (in), 22 PJ.5/XOUT (in), 23 AVSS (power), 24 AVCC (power)

## MSP430FR5738IRGE
designator *  value MSP430FR5738IRGE
ki_keywords: TI MSP430 16-bit mixed signal microcontroller; ki_description: 16kB FRAM, 1kB SRAM, QFN-24; ki_fp_filters: Texas*S?PVQFN*; Footprint: Package_DFN_QFN:Texas_S-PVQFN-N24_EP2.1x2.1mm; Supplier: http://www.ti.com/lit/ds/symlink/msp430fr5738.pdf
footprint Texas_S-PVQFN-N24_EP2.1x2.1mm
pins: 1 TA0.1/DMAE0/RTCCLK/CD0/VeREF-/A0/P1.0 (io), 2 TA0.2/TA1CLK/CDOUT/CD1/VeREF+/A1/P1.1 (io), 3 TA1.1/TA0CLK/CDOUT/CD2/A2/P1.2 (io), 4 TA1.2/UCB0STE/CD3/A3/P1.3 (io), 5 TB0.1/UCA0STE/CD4/A4/P1.4 (io), 6 TB0.2/UCA0CLK/CD5/A5/P1.5 (io), 7 PJ.0/TDO/TB0OUTH/SMCLK/CD6 (io), 8 PJ.1/TDI/TCLK/MCLK/CD7 (io), 9 PJ.2/TMS/ACLK/CD8 (io), 10 PJ.3/TCK/CD9 (io), 11 TEST/SBWTCK (in), 12 ~{{RST}/NMI/SBWTDIO} (in), 13 TB0CLK/UCA0TXD/UCA0SIMO/ACLK/P2.0 (in), 14 TB0.0/UCA0RXD/UCA0SOMI/P2.1 (in), 15 UCB0CLK/P2.2 (in), 16 TA0.0/UCB0SIMO/UCB0SDA/P1.6 (in), 17 TA1.0/UCB0SOMI/UCB0SCL/P1.7 (in), 18 VCORE (in), 19 DVSS (power), 20 DVCC (power), 21 PJ.4/XIN (in), 22 PJ.5/XOUT (in), 23 AVSS (power), 24 AVCC (power)